# Altium schematic symbol library FPGA_Lattice.SchLib: 24 symbols (part 2 of 3)
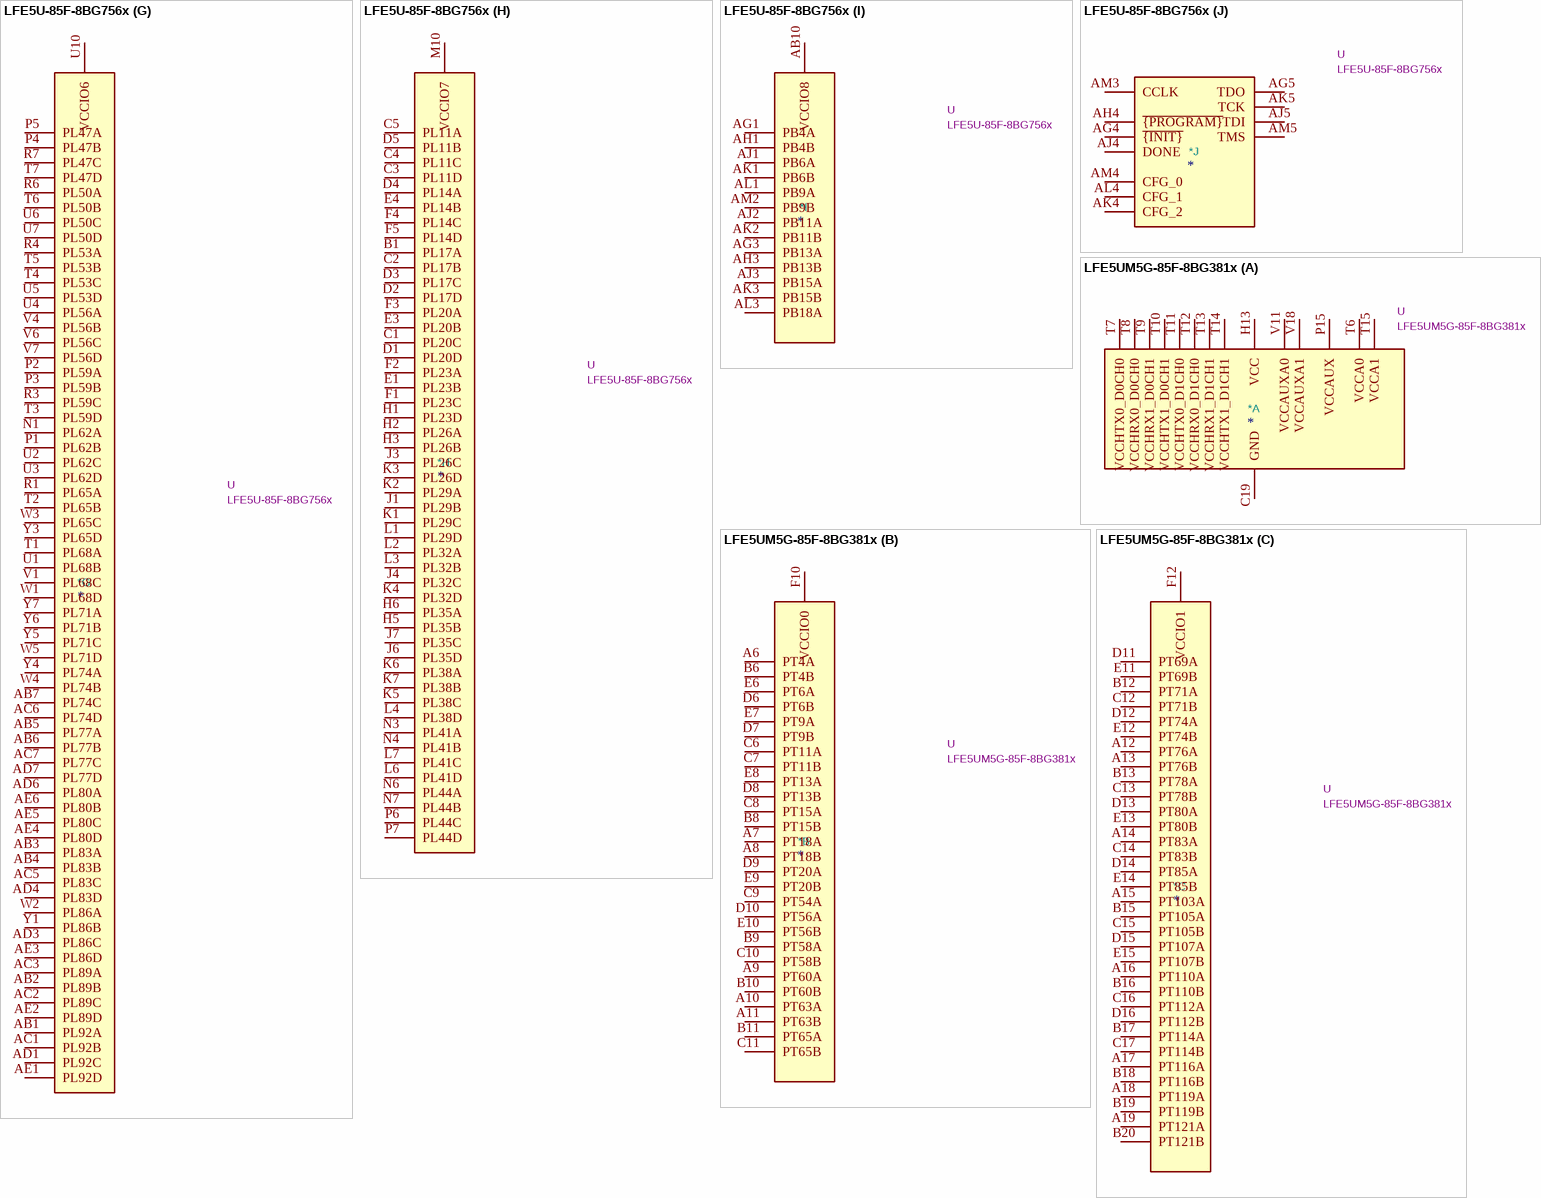
[diagram p25: symbols LFE5U-85F-8BG756x to LFE5UM5G-85F-8BG381x]

## LFE5U-85F-8BG756x
designator *  value LFE5U-85F-8BG756x  Reference: U
ki_keywords: FPGA programmable logic; ki_description: ECP5 FPGA, 84K LUTs, 1.2V, BGA-756; ki_fp_filters: Lattice*caBGA*27.0x27.0mm*Layout32x32*P0.8mm*; Footprint: Package_BGA:Lattice_caBGA-756_27.0x27.0mm_Layout32x32_P0.8mm; Datasheet: https://www.latticesemi.com/view_document?document_id=50461
part A pins: AA11 GND hidden, AA12 VCC hidden, AA13 VCC hidden, AA14 VCC, AA15 VCC hidden, AA16 VCC hidden, AA17 VCC hidden, AA18 VCC hidden, AA19 VCC hidden, AA20 VCC hidden, AA21 VCC hidden, AA22 GND hidden, AB11 GND hidden, AB12 GND hidden, AB13 GND hidden, AB14 GND hidden, AB15 GND hidden, AB16 GND hidden, AB17 GND hidden, AB18 GND hidden, AB19 GND hidden, AB20 GND hidden, AB21 GND hidden, AB22 GND hidden, AC11 VCCAUX hidden, AC12 GND hidden, AC13 GND hidden, AC14 GND hidden, AC15 GND hidden, AC16 GND hidden, AC17 GND hidden, AC18 GND hidden, AC19 GND hidden, AC20 GND hidden, AC21 GND hidden, AC22 VCCAUX hidden, AC29 NC hidden, AD2 GND hidden, AD5 GND hidden, AD28 GND hidden, AD31 GND hidden, AE7 NC hidden, AE26 NC hidden, AF11 GND hidden, AF12 GND hidden, AF14 GND hidden, AF15 GND hidden, AF16 GND hidden, AF17 GND hidden, AF19 GND hidden, AF20 GND hidden, AF22 GND hidden, AF23 GND hidden, AG9 GND hidden, AG11 GND hidden, AG12 GND hidden, AG14 GND hidden, AG15 GND hidden, AG16 GND hidden, AG17 GND hidden, AG19 GND hidden, AG20 GND hidden, AG22 GND hidden, AG23 GND hidden, AG24 NC hidden, AG31 NC hidden, AH2 GND hidden, AH5 GND hidden, AH7 GND hidden, AH8 GND hidden, AH9 GND hidden, AH11 GND hidden, AH12 GND hidden, AH14 GND hidden, AH15 GND hidden, AH16 GND hidden, AH17 GND hidden, AH19 GND hidden, AH20 GND hidden, AH22 GND hidden, AH23 GND hidden, AH24 GND hidden, AH25 GND hidden, AH26 GND hidden, AH29 GND hidden, AH31 GND hidden, AJ7 GND hidden, AJ8 GND hidden, AJ9 GND hidden, AJ10 GND hidden, AJ11 GND hidden, AJ12 GND hidden, AJ13 GND hidden, AJ14 GND hidden, AJ15 GND hidden, AJ16 GND hidden, AJ17 GND hidden, AJ18 GND hidden, AJ19 GND hidden, AJ20 GND hidden, AJ21 GND hidden, AJ22 GND hidden, AJ23 GND hidden, AJ24 GND hidden, AJ25 GND hidden, AJ26 GND hidden, AK7 GND hidden, AK8 GND hidden, AK9 RESERVED hidden, AK10 RESERVED hidden, AK11 GND hidden, AK12 RESERVED hidden, AK13 RESERVED hidden, AK14 GND hidden, AK17 GND hidden, AK18 RESERVED hidden, AK19 RESERVED hidden, AK20 GND hidden, AK21 RESERVED hidden, AK22 RESERVED hidden, AK23 GND hidden, AK26 GND hidden, AL2 GND hidden, AL5 GND hidden, AL7 GND hidden, AL8 GND hidden, AL9 GND hidden, AL11 GND hidden, AL12 GND hidden, AL14 GND hidden, AL15 GND hidden, AL17 GND hidden, AL18 GND hidden, AL20 GND hidden, AL21 GND hidden, AL23 GND hidden, AL24 GND hidden, AL26 GND hidden, AL29 GND hidden, AL31 GND hidden, AM7 GND hidden, AM8 GND hidden, AM9 GND hidden, AM11 GND hidden, AM12 GND hidden, AM14 GND hidden, AM15 GND hidden, AM17 GND hidden, AM18 GND hidden, AM20 GND hidden, AM21 GND hidden, AM23 GND hidden, AM24 GND hidden, AM26 GND hidden, B2 GND hidden, B5 GND hidden, B9 GND hidden, B13 GND hidden, B15 GND hidden, B18 GND hidden, B20 GND hidden, B24 GND hidden, B28 GND hidden, B31 GND, E2 GND hidden, E5 GND hidden, E7 NC hidden, E9 GND hidden, E13 GND hidden, E15 GND hidden, E18 GND hidden, E20 GND hidden, E24 GND hidden, E26 NC hidden, E28 GND hidden, E31 GND hidden, G9 NC hidden, G10 NC hidden, G11 NC hidden, G14 NC hidden, G15 NC hidden, G16 NC hidden, G17 NC hidden, G18 NC hidden, G19 NC hidden, G22 NC hidden, G23 NC hidden, G24 NC hidden, H29 NC hidden, J2 GND hidden, J5 GND hidden, J28 GND hidden, J31 GND hidden, K10 GND hidden, K11 GND hidden, K13 VCCAUX hidden, K20 VCCAUX hidden, K22 GND hidden, K23 GND hidden, L10 GND hidden, L11 GND hidden, L12 GND hidden, L13 GND hidden, L14 GND hidden, L15 GND hidden, L16 GND hidden, L17 GND hidden, L18 GND hidden, L19 GND hidden, L20 GND hidden, L21 GND hidden, L22 GND hidden, L23 GND hidden, L28 NC hidden, M11 GND hidden, M12 VCC hidden, M13 VCC hidden, M14 VCC hidden, M15 VCC hidden, M16 VCC hidden, M17 VCC hidden, M18 VCC hidden, M19 VCC hidden, M20 VCC hidden, M21 VCC hidden, M22 GND hidden, N2 GND hidden, N5 GND hidden, N10 VCCAUX hidden, N11 GND hidden, N12 VCC hidden, N13 GND hidden, N14 GND hidden, N15 GND hidden, N16 GND hidden, N17 GND hidden, N18 GND hidden, N19 GND hidden, N20 GND hidden, N21 VCC hidden, N22 GND hidden, N23 VCCAUX, N28 GND hidden, N31 GND hidden, P11 GND hidden, P12 VCC hidden, P13 GND hidden, P14 GND hidden, P15 GND hidden, P16 GND hidden, P17 GND hidden, P18 GND hidden, P19 GND hidden, P20 GND hidden, P21 VCC hidden, P22 GND hidden, R2 GND hidden, R5 GND hidden, R11 GND hidden, R12 VCC hidden, R13 GND hidden, R14 GND hidden, R15 GND hidden, R16 GND hidden, R17 GND hidden, R18 GND hidden, R19 GND hidden, R20 GND hidden, R21 VCC hidden, R22 GND hidden, R28 GND hidden, R31 GND hidden, T11 GND hidden, T12 VCC hidden, T13 GND hidden, T14 GND hidden, T15 GND hidden, T16 GND hidden, T17 GND hidden, T18 GND hidden, T19 GND hidden, T20 GND hidden, T21 VCC hidden, T22 GND hidden, U11 GND hidden, U12 VCC hidden, U13 GND hidden, U14 GND hidden, U15 GND hidden, U16 GND hidden, U17 GND hidden, U18 GND hidden, U19 GND hidden, U20 GND hidden, U21 VCC hidden, U22 GND hidden, V2 GND hidden, V5 GND hidden, V11 GND hidden, V12 VCC hidden, V13 GND hidden, V14 GND hidden, V15 GND hidden, V16 GND hidden, V17 GND hidden, V18 GND hidden, V19 GND hidden, V20 GND hidden, V21 VCC hidden, V22 GND hidden, V28 GND hidden, V30 NC hidden, V31 GND hidden, W11 GND hidden, W12 VCC hidden, W13 GND hidden, W14 GND hidden, W15 GND hidden, W16 GND hidden, W17 GND hidden, W18 GND hidden, W19 GND hidden, W20 GND hidden, W21 VCC hidden, W22 GND hidden, W27 NC hidden, Y2 GND hidden, Y10 VCCAUX hidden, Y11 GND hidden, Y12 VCC hidden, Y13 GND hidden, Y14 GND hidden, Y15 GND hidden, Y16 GND hidden, Y17 GND hidden, Y18 GND hidden, Y19 GND hidden, Y20 GND hidden, Y21 VCC hidden, Y22 GND hidden, Y23 VCCAUX hidden, Y31 GND hidden
part B pins: A2 PT6A, A3 PT6B, A4 PT9A, A5 PT9B, A7 PT13B, A8 PT20B, A9 PT24B, A10 PT31B, A11 PT38B, A13 PT42B, A14 PT49B, A15 PT54B, A16 PT60B, A17 PT63A, B3 PT4A, B4 PT4B, B7 PT13A, B8 PT20A, B10 PT31A, B11 PT38A, B14 PT49A, B16 PT60A, B17 PT63B, C7 PT11B, C8 PT18B, C9 PT24A, C10 PT29B, C11 PT36B, C13 PT42A, C14 PT47B, C15 PT54A, C16 PT58B, C17 PT65A, D7 PT11A, D8 PT18A, D9 PT22B, D10 PT29A, D11 PT36A, D13 PT40B, D14 PT47A, D15 PT51B, D16 PT58A, D17 PT65B, E8 PT15B, E10 PT27B, E11 PT33B, E14 PT45B, E16 PT56B, F8 PT15A, F9 PT22A, F10 PT27A, F11 PT33A, F13 PT40A, F14 PT45A, F15 PT51A, F16 PT56A, K12 VCCIO0 hidden, K14 VCCIO0 hidden, K15 VCCIO0 hidden, K16 VCCIO0, W6 NC hidden
part C pins: A18 PT71A, A19 PT76A, A20 PT83A, A22 PT87A, A23 PT94A, A24 PT101A, A25 PT105A, A26 PT112A, A28 PT116A, A29 PT116B, A30 PT119A, A31 PT119B, B19 PT76B, B22 PT87B, B23 PT94B, B25 PT105B, B26 PT112B, B29 PT121A, B30 PT121B, C18 PT71B, C19 PT78A, C20 PT83B, C22 PT89A, C23 PT96A, C24 PT101B, C25 PT107A, C26 PT114A, D18 PT74A, D19 PT78B, D20 PT85A, D22 PT89B, D23 PT96B, D24 PT103A, D25 PT107B, D26 PT114B, E17 PT69A, E19 PT80A, E22 PT92A, E23 PT98A, E25 PT110A, F17 PT69B, F18 PT74B, F19 PT80B, F20 PT85B, F22 PT92B, F23 PT98B, F24 PT103B, F25 PT110B, K17 VCCIO1 hidden, K18 VCCIO1 hidden, K19 VCCIO1 hidden, K21 VCCIO1, L5 NC hidden
part D pins: B32 PR17A, C28 PR11A, C29 PR11C, C30 PR11D, C31 PR17B, C32 PR20C, D28 PR11B, D29 PR14A, D30 PR17C, D31 PR17D, D32 PR20D, E29 PR14B, E30 PR20B, E32 PR23B, F28 PR14D, F29 PR14C, F30 PR20A, F31 PR23A, F32 PR23C, H4 NC hidden, H27 PR35A, H28 PR35B, H30 PR26B, H31 PR26A, H32 PR23D, J26 PR35C, J27 PR35D, J29 PR32C, J30 PR26C, J32 PR29B, K26 PR38B, K27 PR38A, K28 PR38C, K29 PR32D, K30 PR26D, K31 PR29A, K32 PR29C, L26 PR41C, L27 PR41D, L29 PR38D, L30 PR32B, L31 PR32A, L32 PR29D, M23 VCCIO2, N26 PR44B, N27 PR44A, N29 PR41B, N30 PR41A, P23 VCCIO2 hidden, P26 PR44D, P27 PR44C, R23 VCCIO2 hidden, T23 VCCIO2 hidden
part E pins: AA23 VCCIO3 hidden, AB26 PR74C, AB27 PR77B, AB28 PR77A, AB29 PR83B, AB30 PR83A, AB31 PR89B, AB32 PR92A, AC4 NC hidden, AC26 PR77C, AC27 PR74D, AC28 PR83C, AC30 PR89A, AC31 PR89C, AC32 PR92B, AD26 PR77D, AD27 PR80A, AD29 PR83D, AD30 PR86C, AD32 PR92C, AE27 PR80B, AE28 PR80C, AE29 PR80D, AE30 PR86D, AE31 PR89D, AE32 PR92D, N32 PR62A, P28 PR47A, P29 PR47B, P30 PR59B, P31 PR59A, P32 PR62B, R26 PR47C, R27 PR50A, R29 PR53A, R30 PR59C, R32 PR65A, T26 PR47D, T27 PR50B, T28 PR53B, T29 PR53C, T30 PR59D, T31 PR65B, T32 PR68A, U23 VCCIO3, U26 PR50D, U27 PR50C, U28 PR53D, U29 PR56A, U30 PR62D, U31 PR62C, U32 PR68B, V23 VCCIO3 hidden, V26 PR56D, V27 PR56C, V29 PR56B, V32 PR68C, W23 VCCIO3 hidden, W28 PR71D, W29 PR74B, W30 PR65C, W31 PR86A, W32 PR68D, Y26 PR71A, Y27 PR71B, Y28 PR71C, Y29 PR74A, Y30 PR65D, Y32 PR86B
part F pins: AB23 VCCIO4, AC23 VCCIO4 hidden, AG28 PB110A, AG29 PB110B, AG30 PB114B, AG32 PB119B, AH28 PB112B, AH30 PB114A, AH32 PB119A, AJ28 PB112A, AJ29 PB121A, AJ30 PB121B, AJ31 PB105B, AJ32 PB101B, AK28 PB98B, AK29 PB116A, AK30 PB116B, AK31 PB105A, AK32 PB101A, AL28 PB98A, AL30 PB103B, AL32 PB107B, AM28 PB96A, AM29 PB96B, AM30 PB103A, AM31 PB107A, V3 NC hidden
part G pins: AA10 VCCIO6 hidden, AB1 PL92A, AB2 PL89B, AB3 PL83A, AB4 PL83B, AB5 PL77A, AB6 PL77B, AB7 PL74C, AC1 PL92B, AC2 PL89C, AC3 PL89A, AC5 PL83C, AC6 PL74D, AC7 PL77C, AD1 PL92C, AD3 PL86C, AD4 PL83D, AD6 PL80A, AD7 PL77D, AE1 PL92D, AE2 PL89D, AE3 PL86D, AE4 PL80D, AE5 PL80C, AE6 PL80B, AG2 NC hidden, N1 PL62A, P1 PL62B, P2 PL59A, P3 PL59B, P4 PL47B, P5 PL47A, R1 PL65A, R3 PL59C, R4 PL53A, R6 PL50A, R7 PL47C, T1 PL68A, T2 PL65B, T3 PL59D, T4 PL53C, T5 PL53B, T6 PL50B, T7 PL47D, U1 PL68B, U2 PL62C, U3 PL62D, U4 PL56A, U5 PL53D, U6 PL50C, U7 PL50D, U10 VCCIO6, V1 PL68C, V4 PL56B, V6 PL56C, V7 PL56D, V10 VCCIO6 hidden, W1 PL68D, W2 PL86A, W3 PL65C, W4 PL74B, W5 PL71D, W10 VCCIO6 hidden, Y1 PL86B, Y3 PL65D, Y4 PL74A, Y5 PL71C, Y6 PL71B, Y7 PL71A
part H pins: B1 PL17A, C1 PL20C, C2 PL17B, C3 PL11D, C4 PL11C, C5 PL11A, D1 PL20D, D2 PL17D, D3 PL17C, D4 PL14A, D5 PL11B, E1 PL23B, E3 PL20B, E4 PL14B, F1 PL23C, F2 PL23A, F3 PL20A, F4 PL14C, F5 PL14D, H1 PL23D, H2 PL26A, H3 PL26B, H5 PL35B, H6 PL35A, J1 PL29B, J3 PL26C, J4 PL32C, J6 PL35D, J7 PL35C, K1 PL29C, K2 PL29A, K3 PL26D, K4 PL32D, K5 PL38C, K6 PL38A, K7 PL38B, L1 PL29D, L2 PL32A, L3 PL32B, L4 PL38D, L6 PL41D, L7 PL41C, M10 VCCIO7, N3 PL41A, N4 PL41B, N6 PL44A, N7 PL44B, P6 PL44C, P7 PL44D, P10 VCCIO7 hidden, R10 VCCIO7 hidden, T10 VCCIO7 hidden
part I pins: AB10 VCCIO8, AC10 VCCIO8 hidden, AG1 PB4A, AG3 PB13A, AH1 PB4B, AH3 PB13B, AJ1 PB6A, AJ2 PB11A, AJ3 PB15A, AK1 PB6B, AK2 PB11B, AK3 PB15B, AL1 PB9A, AL3 PB18A, AM2 PB9B
part J pins: AG4 ~{{INIT}}, AG5 TDO, AH4 ~{{PROGRAM}}, AJ4 DONE, AJ5 TDI, AK4 CFG_2, AK5 TCK, AK15 RESERVED hidden, AK16 RESERVED hidden, AK24 RESERVED hidden, AK25 RESERVED hidden, AL4 CFG_1, AM3 CCLK, AM4 CFG_0, AM5 TMS

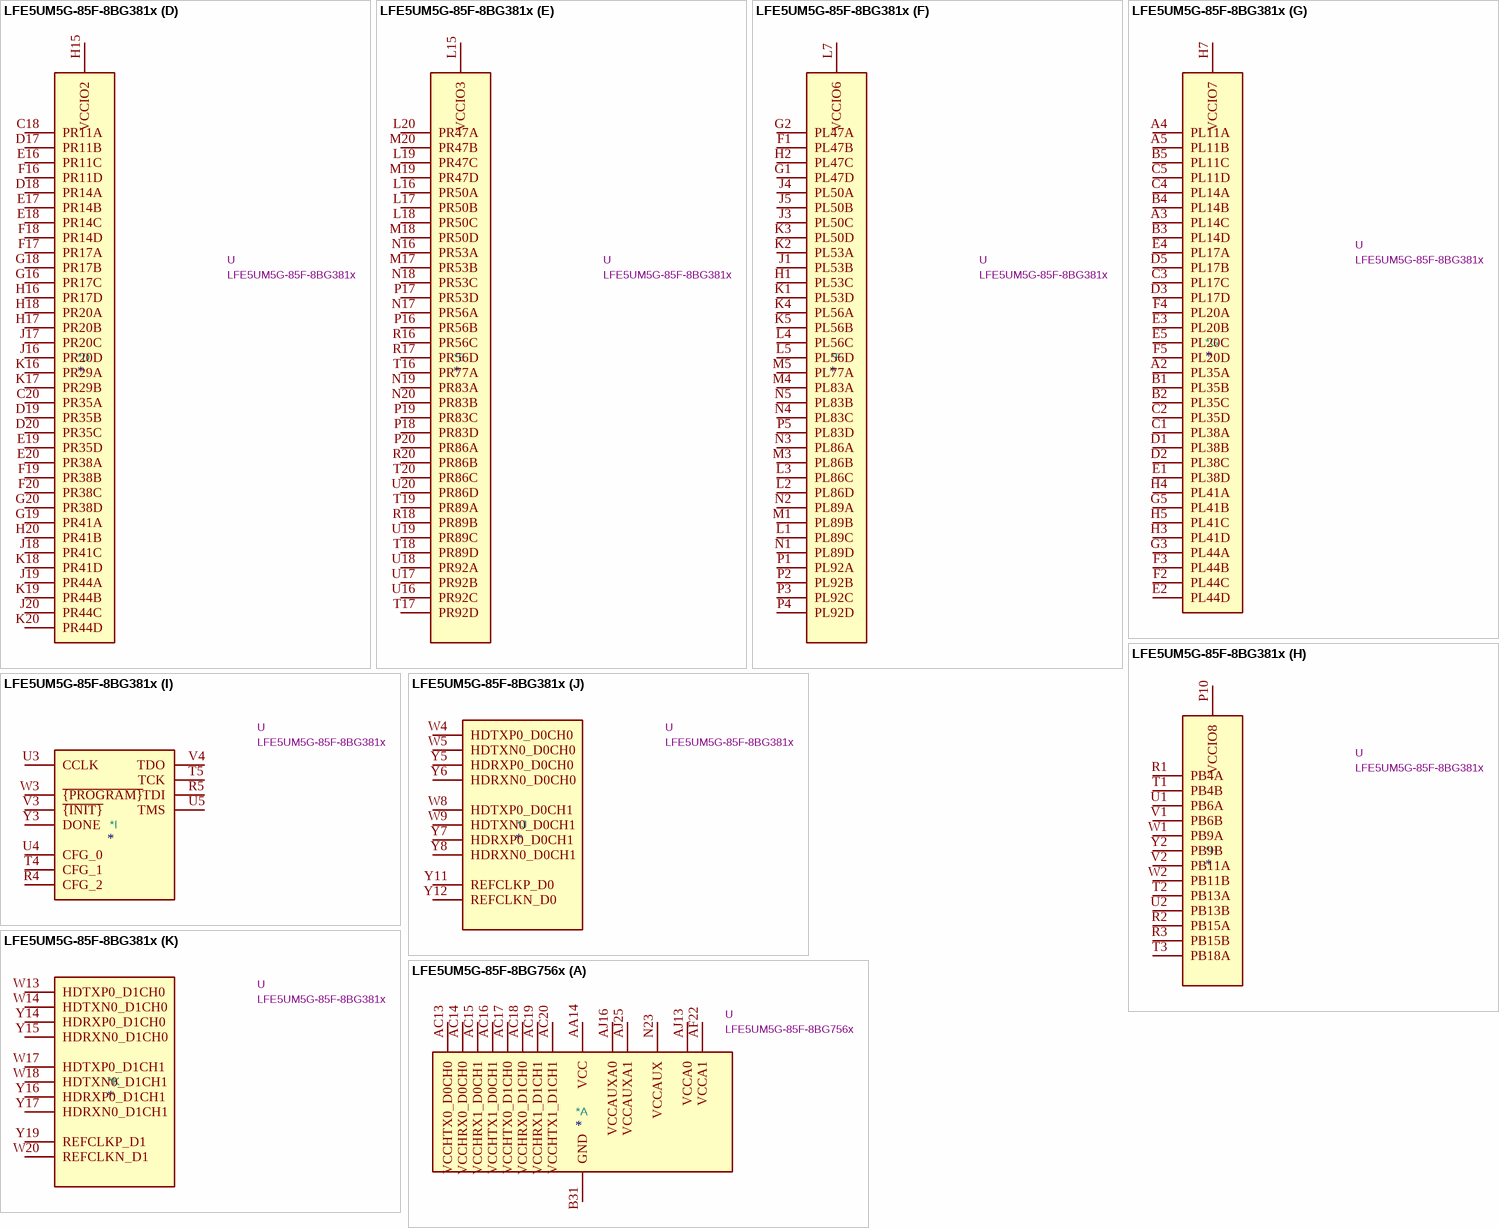
[diagram p11: symbols LFE5UM5G-85F-8BG381x to LFE5UM5G-85F-8BG756x]

## LFE5UM5G-85F-8BG381x
designator *  value LFE5UM5G-85F-8BG381x  Reference: U
ki_keywords: FPGA programmable logic; ki_description: ECP5-5G FPGA, 84K LUTs, 1.2V, 5Gbps SERDES, BGA-381; ki_fp_filters: Lattice*caBGA*17.0x17.0mm*Layout20x20*P0.8mm*; Footprint: Package_BGA:Lattice_caBGA-381_17.0x17.0mm_Layout20x20_P0.8mm_Ball0.4mm_Pad0.4mm_NSMD; Datasheet: https://www.latticesemi.com/view_document?document_id=50461
part A pins: B7 GND hidden, B14 GND hidden, C19 GND, D4 GND hidden, F6 VCCAUX hidden, F7 GND hidden, F8 GND hidden, F13 GND hidden, F14 GND hidden, F15 VCCAUX hidden, G4 GND hidden, G6 GND hidden, G7 GND hidden, G8 GND hidden, G9 GND hidden, G10 GND hidden, G11 GND hidden, G12 GND hidden, G13 GND hidden, G14 GND hidden, G15 GND hidden, G17 GND hidden, H8 VCC hidden, H9 VCC hidden, H10 VCC hidden, H11 VCC hidden, H12 VCC hidden, H13 VCC, H19 GND hidden, J2 GND hidden, J7 GND hidden, J8 VCC hidden, J9 GND hidden, J10 GND hidden, J11 GND hidden, J12 GND hidden, J13 VCC hidden, J14 GND hidden, K6 GND hidden, K7 GND hidden, K8 VCC hidden, K9 GND hidden, K10 GND hidden, K11 GND hidden, K12 GND hidden, K13 VCC hidden, K14 GND hidden, K15 GND hidden, L8 VCC hidden, L9 GND hidden, L10 GND hidden, L11 GND hidden, L12 GND hidden, L13 VCC hidden, M2 GND hidden, M7 GND hidden, M8 VCC hidden, M9 GND hidden, M10 GND hidden, M11 GND hidden, M12 GND hidden, M13 VCC hidden, M14 GND hidden, M16 GND hidden, N6 GND hidden, N7 GND hidden, N8 VCC hidden, N9 VCC hidden, N10 VCC hidden, N11 VCC hidden, N12 VCC hidden, N13 VCC hidden, N14 GND hidden, N15 GND hidden, P6 VCCAUX hidden, P7 GND hidden, P8 GND hidden, P11 GND hidden, P12 GND hidden, P13 GND hidden, P14 GND hidden, P15 VCCAUX, R19 GND hidden, T6 VCCA0, T7 VCCHTX0_D0CH0, T8 VCCHRX0_D0CH0, T9 VCCHRX1_D0CH1, T10 VCCHTX1_D0CH1, T11 VCCHTX0_D1CH0, T12 VCCHRX0_D1CH0, T13 VCCHRX1_D1CH1, T14 VCCHTX1_D1CH1, T15 VCCA1, U6 VCCA0 hidden, U7 GND hidden, U8 GND hidden, U9 GND hidden, U10 GND hidden, U11 GND hidden, U12 GND hidden, U13 GND hidden, U14 GND hidden, U15 VCCA1 hidden, V5 GND hidden, V6 GND hidden, V7 GND hidden, V8 GND hidden, V9 GND hidden, V10 VCCAUXA0 hidden, V11 VCCAUXA0, V12 GND hidden, V13 GND hidden, V14 GND hidden, V15 GND hidden, V16 GND hidden, V17 VCCAUXA1 hidden, V18 VCCAUXA1, V19 GND hidden, V20 GND hidden, W6 GND hidden, W7 GND hidden, W12 GND hidden, W15 GND hidden, W16 GND hidden, W19 GND hidden
part B pins: A6 PT4A, A7 PT18A, A8 PT18B, A9 PT60A, A10 PT63A, A11 PT63B, B6 PT4B, B8 PT15B, B9 PT58A, B10 PT60B, B11 PT65A, C6 PT11A, C7 PT11B, C8 PT15A, C9 PT54A, C10 PT58B, C11 PT65B, D6 PT6B, D7 PT9B, D8 PT13B, D9 PT20A, D10 PT56A, E6 PT6A, E7 PT9A, E8 PT13A, E9 PT20B, E10 PT56B, F9 VCCIO0 hidden, F10 VCCIO0
part C pins: A12 PT76A, A13 PT76B, A14 PT83A, A15 PT103A, A16 PT110A, A17 PT116A, A18 PT119A, A19 PT121A, B12 PT71A, B13 PT78A, B15 PT105A, B16 PT110B, B17 PT114A, B18 PT116B, B19 PT119B, B20 PT121B, C12 PT71B, C13 PT78B, C14 PT83B, C15 PT105B, C16 PT112A, C17 PT114B, D11 PT69A, D12 PT74A, D13 PT80A, D14 PT85A, D15 PT107A, D16 PT112B, E11 PT69B, E12 PT74B, E13 PT80B, E14 PT85B, E15 PT107B, F11 VCCIO1 hidden, F12 VCCIO1
part D pins: C18 PR11A, C20 PR35A, D17 PR11B, D18 PR14A, D19 PR35B, D20 PR35C, E16 PR11C, E17 PR14B, E18 PR14C, E19 PR35D, E20 PR38A, F16 PR11D, F17 PR17A, F18 PR14D, F19 PR38B, F20 PR38C, G16 PR17C, G18 PR17B, G19 PR41A, G20 PR38D, H14 VCCIO2 hidden, H15 VCCIO2, H16 PR17D, H17 PR20B, H18 PR20A, H20 PR41B, J15 VCCIO2 hidden, J16 PR20D, J17 PR20C, J18 PR41C, J19 PR44A, J20 PR44C, K16 PR29A, K17 PR29B, K18 PR41D, K19 PR44B, K20 PR44D
part E pins: L14 VCCIO3 hidden, L15 VCCIO3, L16 PR50A, L17 PR50B, L18 PR50C, L19 PR47C, L20 PR47A, M15 VCCIO3 hidden, M17 PR53B, M18 PR50D, M19 PR47D, M20 PR47B, N16 PR53A, N17 PR56A, N18 PR53C, N19 PR83A, N20 PR83B, P16 PR56B, P17 PR53D, P18 PR83D, P19 PR83C, P20 PR86A, R16 PR56C, R17 PR56D, R18 PR89B, R20 PR86B, T16 PR77A, T17 PR92D, T18 PR89D, T19 PR89A, T20 PR86C, U16 PR92C, U17 PR92B, U18 PR92A, U19 PR89C, U20 PR86D
part F pins: F1 PL47B, G1 PL47D, G2 PL47A, H1 PL53C, H2 PL47C, J1 PL53B, J3 PL50C, J4 PL50A, J5 PL50B, K1 PL53D, K2 PL53A, K3 PL50D, K4 PL56A, K5 PL56B, L1 PL89C, L2 PL86D, L3 PL86C, L4 PL56C, L5 PL56D, L6 VCCIO6 hidden, L7 VCCIO6, M1 PL89B, M3 PL86B, M4 PL83A, M5 PL77A, M6 VCCIO6 hidden, N1 PL89D, N2 PL89A, N3 PL86A, N4 PL83C, N5 PL83B, P1 PL92A, P2 PL92B, P3 PL92C, P4 PL92D, P5 PL83D
part G pins: A2 PL35A, A3 PL14C, A4 PL11A, A5 PL11B, B1 PL35B, B2 PL35C, B3 PL14D, B4 PL14B, B5 PL11C, C1 PL38A, C2 PL35D, C3 PL17C, C4 PL14A, C5 PL11D, D1 PL38B, D2 PL38C, D3 PL17D, D5 PL17B, E1 PL38D, E2 PL44D, E3 PL20B, E4 PL17A, E5 PL20C, F2 PL44C, F3 PL44B, F4 PL20A, F5 PL20D, G3 PL44A, G5 PL41B, H3 PL41D, H4 PL41A, H5 PL41C, H6 VCCIO7 hidden, H7 VCCIO7, J6 VCCIO7 hidden
part H pins: P9 VCCIO8 hidden, P10 VCCIO8, R1 PB4A, R2 PB15A, R3 PB15B, T1 PB4B, T2 PB13A, T3 PB18A, U1 PB6A, U2 PB13B, V1 PB6B, V2 PB11A, W1 PB9A, W2 PB11B, Y2 PB9B
part I pins: R4 CFG_2, R5 TDI, T4 CFG_1, T5 TCK, U3 CCLK, U4 CFG_0, U5 TMS, V3 ~{{INIT}}, V4 TDO, W3 ~{{PROGRAM}}, W10 RESERVED hidden, W11 RESERVED hidden, Y3 DONE
part J pins: W4 HDTXP0_D0CH0, W5 HDTXN0_D0CH0, W8 HDTXP0_D0CH1, W9 HDTXN0_D0CH1, Y5 HDRXP0_D0CH0, Y6 HDRXN0_D0CH0, Y7 HDRXP0_D0CH1, Y8 HDRXN0_D0CH1, Y11 REFCLKP_D0, Y12 REFCLKN_D0
part K pins: W13 HDTXP0_D1CH0, W14 HDTXN0_D1CH0, W17 HDTXP0_D1CH1, W18 HDTXN0_D1CH1, W20 REFCLKN_D1, Y14 HDRXP0_D1CH0, Y15 HDRXN0_D1CH0, Y16 HDRXP0_D1CH1, Y17 HDRXN0_D1CH1, Y19 REFCLKP_D1

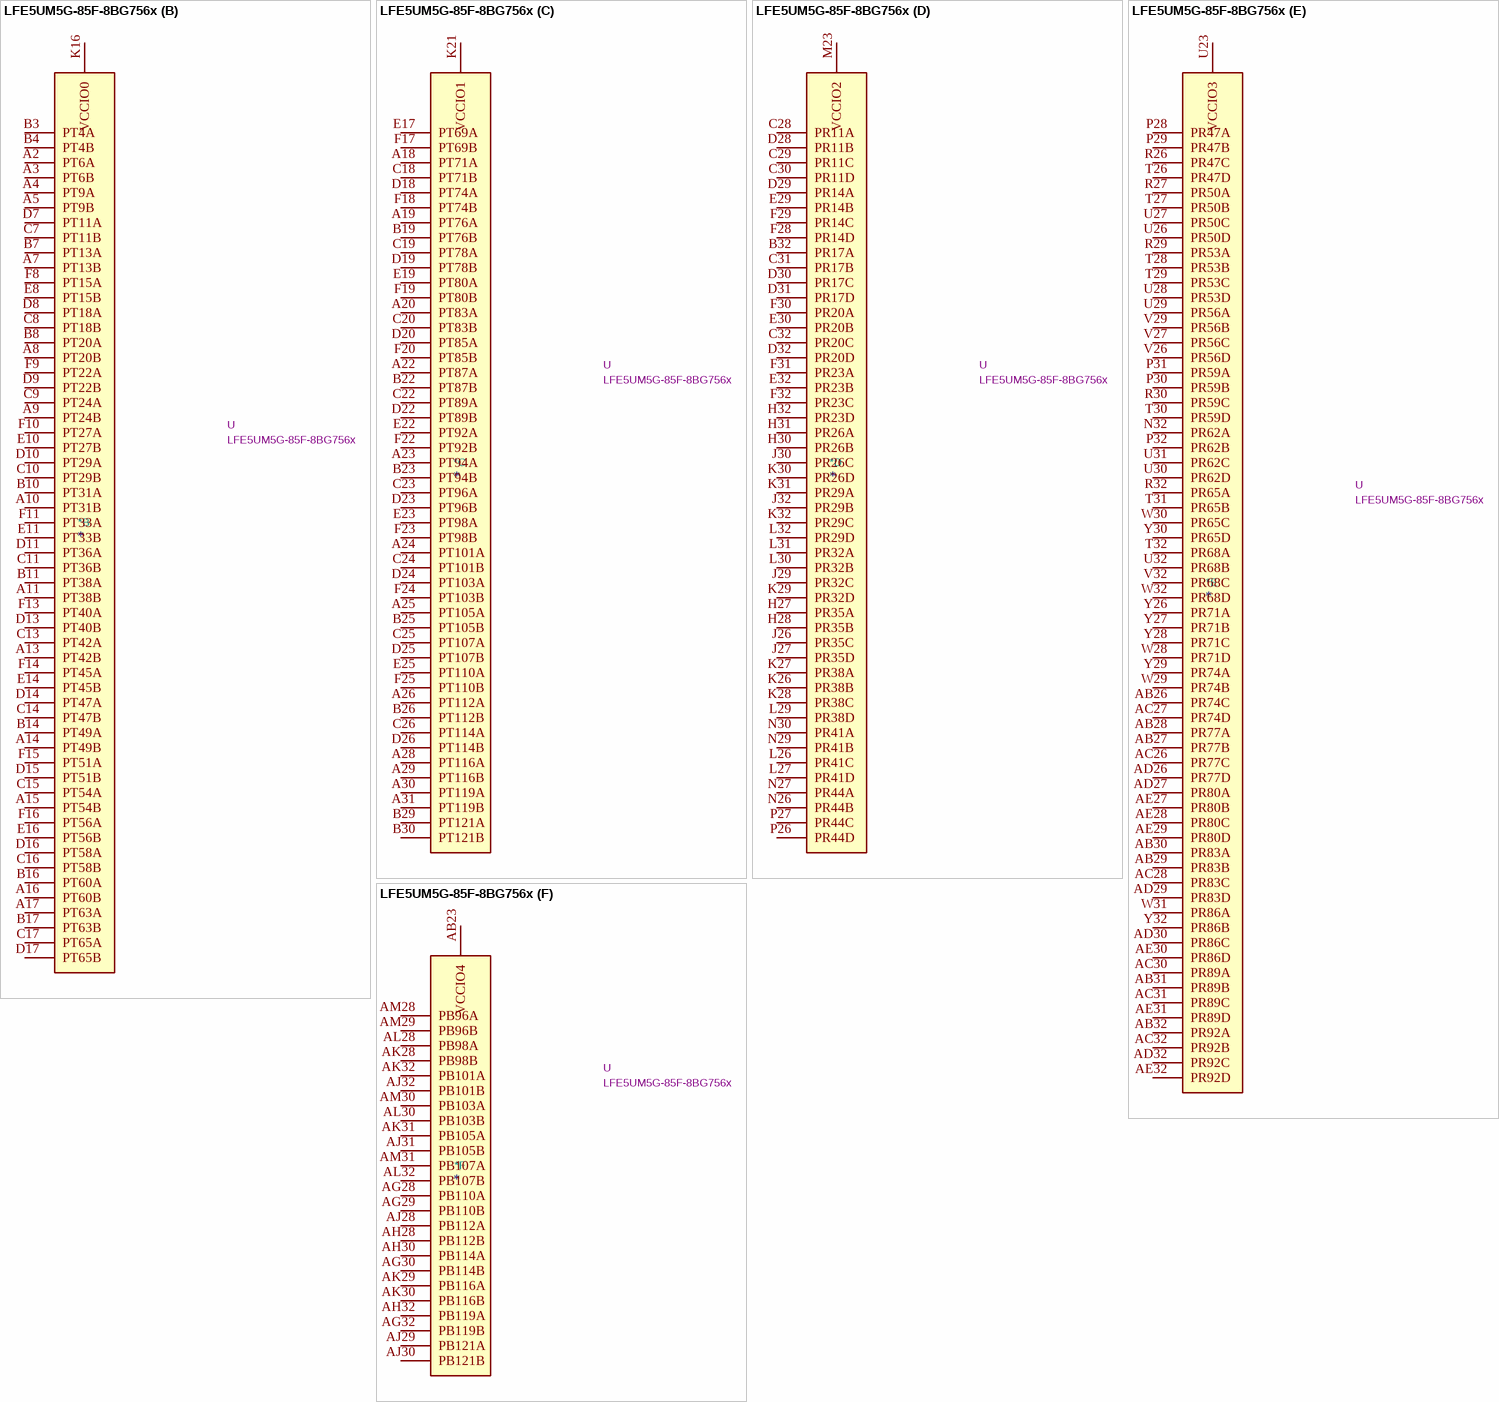
[diagram p12: symbol LFE5UM5G-85F-8BG756x]

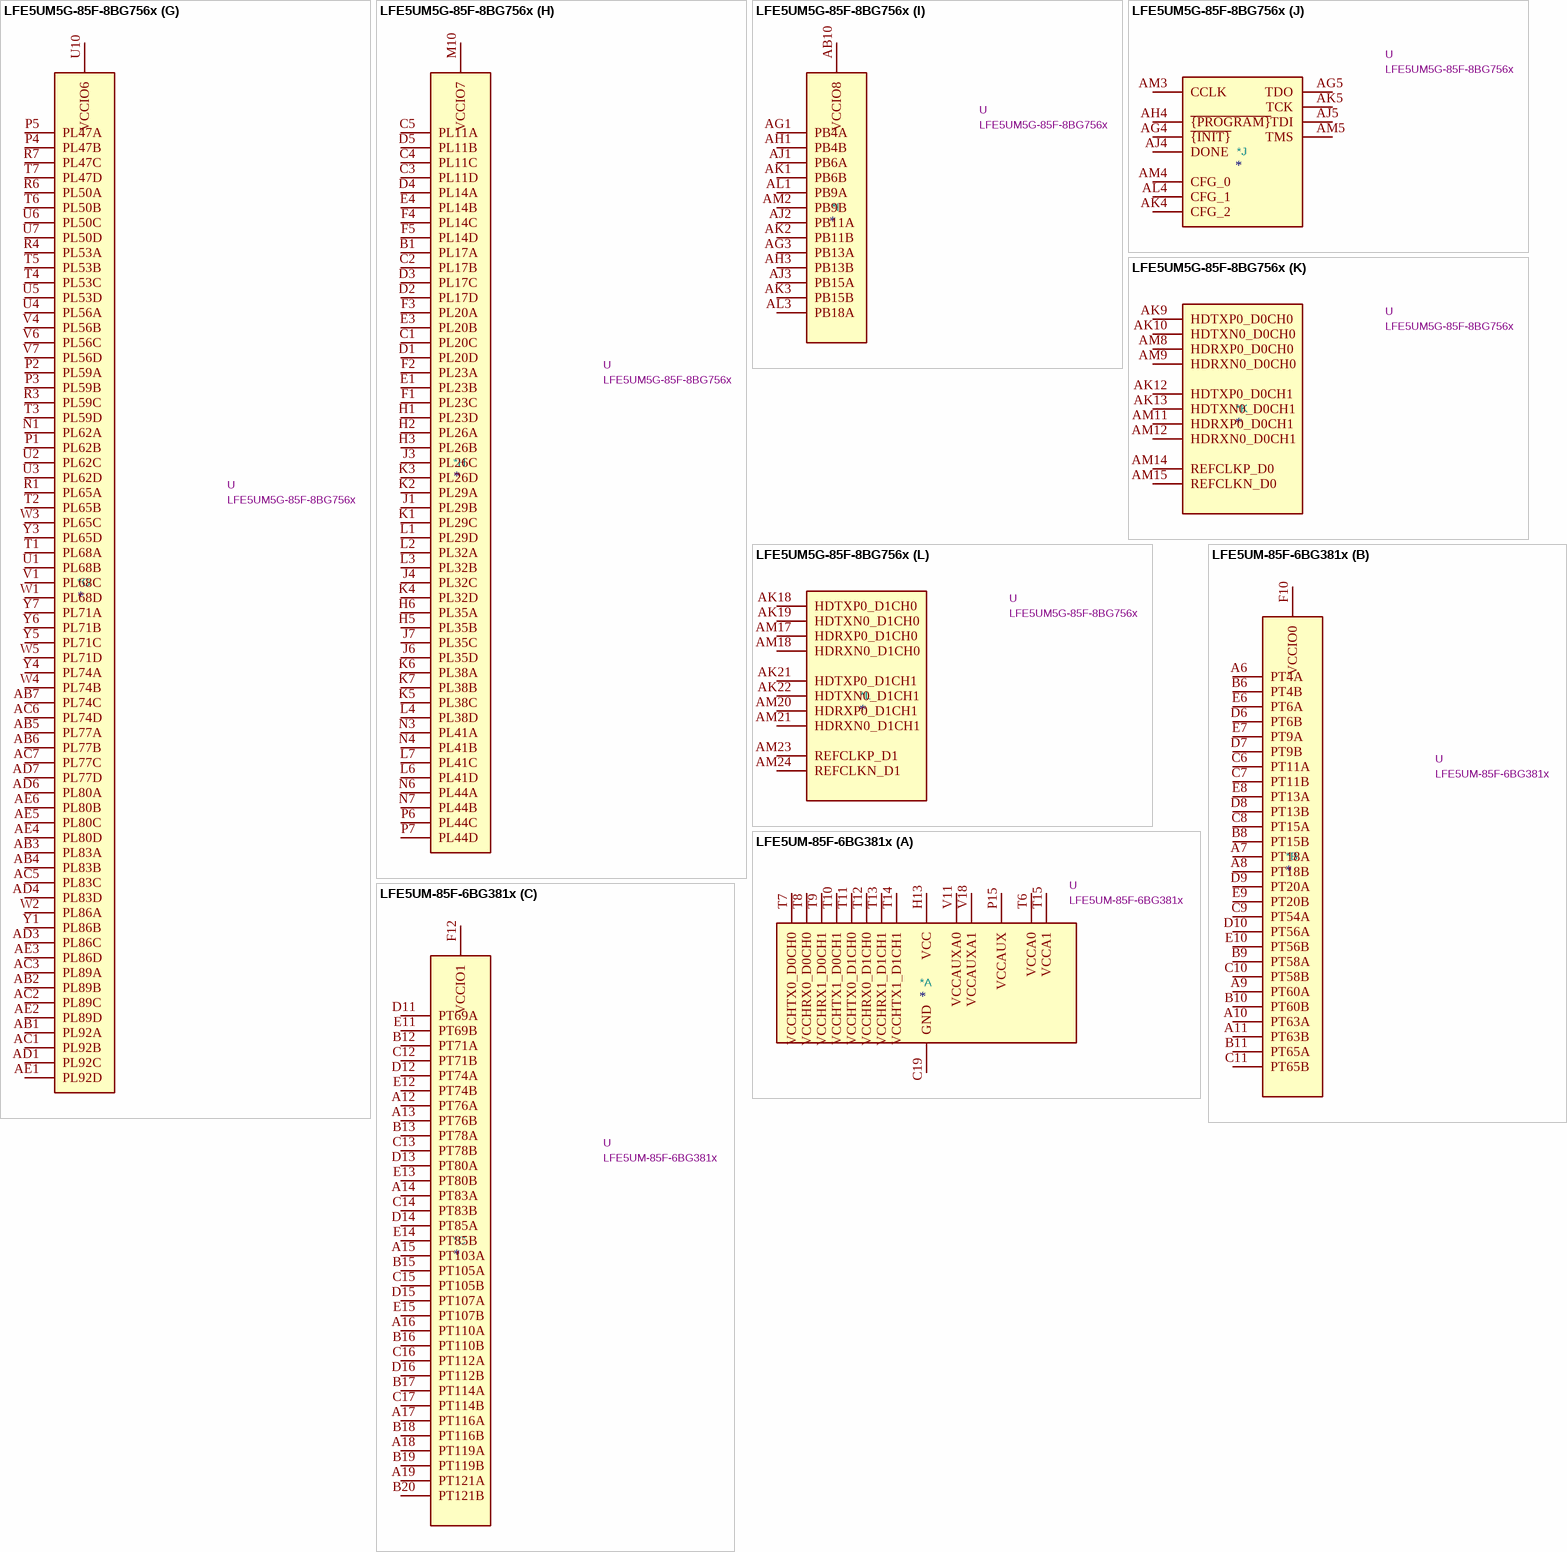
[diagram p13: symbols LFE5UM5G-85F-8BG756x to LFE5UM-85F-6BG381x]

## LFE5UM5G-85F-8BG756x
designator *  value LFE5UM5G-85F-8BG756x  Reference: U
ki_keywords: FPGA programmable logic; ki_description: ECP5-5G FPGA, 84K LUTs, 1.2V, 5Gbps SERDES, BGA-756; ki_fp_filters: Lattice*caBGA*27.0x27.0mm*Layout32x32*P0.8mm*; Footprint: Package_BGA:Lattice_caBGA-756_27.0x27.0mm_Layout32x32_P0.8mm; Datasheet: https://www.latticesemi.com/view_document?document_id=50461
part A pins: AA11 GND hidden, AA12 VCC hidden, AA13 VCC hidden, AA14 VCC, AA15 VCC hidden, AA16 VCC hidden, AA17 VCC hidden, AA18 VCC hidden, AA19 VCC hidden, AA20 VCC hidden, AA21 VCC hidden, AA22 GND hidden, AB11 GND hidden, AB12 GND hidden, AB13 GND hidden, AB14 GND hidden, AB15 GND hidden, AB16 GND hidden, AB17 GND hidden, AB18 GND hidden, AB19 GND hidden, AB20 GND hidden, AB21 GND hidden, AB22 GND hidden, AC11 VCCAUX hidden, AC12 GND hidden, AC13 VCCHTX0_D0CH0, AC14 VCCHRX0_D0CH0, AC15 VCCHRX1_D0CH1, AC16 VCCHTX1_D0CH1, AC17 VCCHTX0_D1CH0, AC18 VCCHRX0_D1CH0, AC19 VCCHRX1_D1CH1, AC20 VCCHTX1_D1CH1, AC21 GND hidden, AC22 VCCAUX hidden, AC29 NC hidden, AD2 GND hidden, AD5 GND hidden, AD28 GND hidden, AD31 GND hidden, AE7 NC hidden, AE26 NC hidden, AF11 GND hidden, AF12 GND hidden, AF14 GND hidden, AF15 GND hidden, AF16 GND hidden, AF17 GND hidden, AF19 GND hidden, AF20 GND hidden, AF22 VCCA1, AF23 GND hidden, AG9 VCCA0 hidden, AG11 GND hidden, AG12 VCCA0 hidden, AG14 GND hidden, AG15 GND hidden, AG16 GND hidden, AG17 GND hidden, AG19 VCCA1 hidden, AG20 GND hidden, AG22 VCCA1 hidden, AG23 GND hidden, AG24 NC hidden, AG31 NC hidden, AH2 GND hidden, AH5 GND hidden, AH7 GND hidden, AH8 GND hidden, AH9 VCCA0 hidden, AH11 GND hidden, AH12 VCCA0 hidden, AH14 GND hidden, AH15 GND hidden, AH16 GND hidden, AH17 GND hidden, AH19 VCCA1 hidden, AH20 GND hidden, AH22 VCCA1 hidden, AH23 GND hidden, AH24 GND hidden, AH25 GND hidden, AH26 GND hidden, AH29 GND hidden, AH31 GND hidden, AJ7 GND hidden, AJ8 GND hidden, AJ9 VCCA0 hidden, AJ10 VCCA0 hidden, AJ11 GND hidden, AJ12 VCCA0 hidden, AJ13 VCCA0, AJ14 GND hidden, AJ15 VCCAUXA0 hidden, AJ16 VCCAUXA0, AJ17 GND hidden, AJ18 VCCA1 hidden, AJ19 VCCA1 hidden, AJ20 GND hidden, AJ21 VCCA1 hidden, AJ22 VCCA1 hidden, AJ23 GND hidden, AJ24 VCCAUXA1 hidden, AJ25 VCCAUXA1, AJ26 GND hidden, AK7 GND hidden, AK8 GND hidden, AK11 GND hidden, AK14 GND hidden, AK17 GND hidden, AK20 GND hidden, AK23 GND hidden, AK26 GND hidden, AL2 GND hidden, AL5 GND hidden, AL7 GND hidden, AL8 GND hidden, AL9 GND hidden, AL11 GND hidden, AL12 GND hidden, AL14 GND hidden, AL15 GND hidden, AL17 GND hidden, AL18 GND hidden, AL20 GND hidden, AL21 GND hidden, AL23 GND hidden, AL24 GND hidden, AL26 GND hidden, AL29 GND hidden, AL31 GND hidden, AM7 GND hidden, AM26 GND hidden, B2 GND hidden, B5 GND hidden, B9 GND hidden, B13 GND hidden, B15 GND hidden, B18 GND hidden, B20 GND hidden, B24 GND hidden, B28 GND hidden, B31 GND, E2 GND hidden, E5 GND hidden, E7 NC hidden, E9 GND hidden, E13 GND hidden, E15 GND hidden, E18 GND hidden, E20 GND hidden, E24 GND hidden, E26 NC hidden, E28 GND hidden, E31 GND hidden, G9 NC hidden, G10 NC hidden, G11 NC hidden, G14 NC hidden, G15 NC hidden, G16 NC hidden, G17 NC hidden, G18 NC hidden, G19 NC hidden, G22 NC hidden, G23 NC hidden, G24 NC hidden, H29 NC hidden, J2 GND hidden, J5 GND hidden, J28 GND hidden, J31 GND hidden, K10 GND hidden, K11 GND hidden, K13 VCCAUX hidden, K20 VCCAUX hidden, K22 GND hidden, K23 GND hidden, L10 GND hidden, L11 GND hidden, L12 GND hidden, L13 GND hidden, L14 GND hidden, L15 GND hidden, L16 GND hidden, L17 GND hidden, L18 GND hidden, L19 GND hidden, L20 GND hidden, L21 GND hidden, L22 GND hidden, L23 GND hidden, L28 NC hidden, M11 GND hidden, M12 VCC hidden, M13 VCC hidden, M14 VCC hidden, M15 VCC hidden, M16 VCC hidden, M17 VCC hidden, M18 VCC hidden, M19 VCC hidden, M20 VCC hidden, M21 VCC hidden, M22 GND hidden, N2 GND hidden, N5 GND hidden, N10 VCCAUX hidden, N11 GND hidden, N12 VCC hidden, N13 GND hidden, N14 GND hidden, N15 GND hidden, N16 GND hidden, N17 GND hidden, N18 GND hidden, N19 GND hidden, N20 GND hidden, N21 VCC hidden, N22 GND hidden, N23 VCCAUX, N28 GND hidden, N31 GND hidden, P11 GND hidden, P12 VCC hidden, P13 GND hidden, P14 GND hidden, P15 GND hidden, P16 GND hidden, P17 GND hidden, P18 GND hidden, P19 GND hidden, P20 GND hidden, P21 VCC hidden, P22 GND hidden, R2 GND hidden, R5 GND hidden, R11 GND hidden, R12 VCC hidden, R13 GND hidden, R14 GND hidden, R15 GND hidden, R16 GND hidden, R17 GND hidden, R18 GND hidden, R19 GND hidden, R20 GND hidden, R21 VCC hidden, R22 GND hidden, R28 GND hidden, R31 GND hidden, T11 GND hidden, T12 VCC hidden, T13 GND hidden, T14 GND hidden, T15 GND hidden, T16 GND hidden, T17 GND hidden, T18 GND hidden, T19 GND hidden, T20 GND hidden, T21 VCC hidden, T22 GND hidden, U11 GND hidden, U12 VCC hidden, U13 GND hidden, U14 GND hidden, U15 GND hidden, U16 GND hidden, U17 GND hidden, U18 GND hidden, U19 GND hidden, U20 GND hidden, U21 VCC hidden, U22 GND hidden, V2 GND hidden, V5 GND hidden, V11 GND hidden, V12 VCC hidden, V13 GND hidden, V14 GND hidden, V15 GND hidden, V16 GND hidden, V17 GND hidden, V18 GND hidden, V19 GND hidden, V20 GND hidden, V21 VCC hidden, V22 GND hidden, V28 GND hidden, V30 NC hidden, V31 GND hidden, W11 GND hidden, W12 VCC hidden, W13 GND hidden, W14 GND hidden, W15 GND hidden, W16 GND hidden, W17 GND hidden, W18 GND hidden, W19 GND hidden, W20 GND hidden, W21 VCC hidden, W22 GND hidden, W27 NC hidden, Y2 GND hidden, Y10 VCCAUX hidden, Y11 GND hidden, Y12 VCC hidden, Y13 GND hidden, Y14 GND hidden, Y15 GND hidden, Y16 GND hidden, Y17 GND hidden, Y18 GND hidden, Y19 GND hidden, Y20 GND hidden, Y21 VCC hidden, Y22 GND hidden, Y23 VCCAUX hidden, Y31 GND hidden
part B pins: A2 PT6A, A3 PT6B, A4 PT9A, A5 PT9B, A7 PT13B, A8 PT20B, A9 PT24B, A10 PT31B, A11 PT38B, A13 PT42B, A14 PT49B, A15 PT54B, A16 PT60B, A17 PT63A, B3 PT4A, B4 PT4B, B7 PT13A, B8 PT20A, B10 PT31A, B11 PT38A, B14 PT49A, B16 PT60A, B17 PT63B, C7 PT11B, C8 PT18B, C9 PT24A, C10 PT29B, C11 PT36B, C13 PT42A, C14 PT47B, C15 PT54A, C16 PT58B, C17 PT65A, D7 PT11A, D8 PT18A, D9 PT22B, D10 PT29A, D11 PT36A, D13 PT40B, D14 PT47A, D15 PT51B, D16 PT58A, D17 PT65B, E8 PT15B, E10 PT27B, E11 PT33B, E14 PT45B, E16 PT56B, F8 PT15A, F9 PT22A, F10 PT27A, F11 PT33A, F13 PT40A, F14 PT45A, F15 PT51A, F16 PT56A, K12 VCCIO0 hidden, K14 VCCIO0 hidden, K15 VCCIO0 hidden, K16 VCCIO0, W6 NC hidden
part C pins: A18 PT71A, A19 PT76A, A20 PT83A, A22 PT87A, A23 PT94A, A24 PT101A, A25 PT105A, A26 PT112A, A28 PT116A, A29 PT116B, A30 PT119A, A31 PT119B, B19 PT76B, B22 PT87B, B23 PT94B, B25 PT105B, B26 PT112B, B29 PT121A, B30 PT121B, C18 PT71B, C19 PT78A, C20 PT83B, C22 PT89A, C23 PT96A, C24 PT101B, C25 PT107A, C26 PT114A, D18 PT74A, D19 PT78B, D20 PT85A, D22 PT89B, D23 PT96B, D24 PT103A, D25 PT107B, D26 PT114B, E17 PT69A, E19 PT80A, E22 PT92A, E23 PT98A, E25 PT110A, F17 PT69B, F18 PT74B, F19 PT80B, F20 PT85B, F22 PT92B, F23 PT98B, F24 PT103B, F25 PT110B, K17 VCCIO1 hidden, K18 VCCIO1 hidden, K19 VCCIO1 hidden, K21 VCCIO1, L5 NC hidden
part D pins: B32 PR17A, C28 PR11A, C29 PR11C, C30 PR11D, C31 PR17B, C32 PR20C, D28 PR11B, D29 PR14A, D30 PR17C, D31 PR17D, D32 PR20D, E29 PR14B, E30 PR20B, E32 PR23B, F28 PR14D, F29 PR14C, F30 PR20A, F31 PR23A, F32 PR23C, H4 NC hidden, H27 PR35A, H28 PR35B, H30 PR26B, H31 PR26A, H32 PR23D, J26 PR35C, J27 PR35D, J29 PR32C, J30 PR26C, J32 PR29B, K26 PR38B, K27 PR38A, K28 PR38C, K29 PR32D, K30 PR26D, K31 PR29A, K32 PR29C, L26 PR41C, L27 PR41D, L29 PR38D, L30 PR32B, L31 PR32A, L32 PR29D, M23 VCCIO2, N26 PR44B, N27 PR44A, N29 PR41B, N30 PR41A, P23 VCCIO2 hidden, P26 PR44D, P27 PR44C, R23 VCCIO2 hidden, T23 VCCIO2 hidden
part E pins: AA23 VCCIO3 hidden, AB26 PR74C, AB27 PR77B, AB28 PR77A, AB29 PR83B, AB30 PR83A, AB31 PR89B, AB32 PR92A, AC4 NC hidden, AC26 PR77C, AC27 PR74D, AC28 PR83C, AC30 PR89A, AC31 PR89C, AC32 PR92B, AD26 PR77D, AD27 PR80A, AD29 PR83D, AD30 PR86C, AD32 PR92C, AE27 PR80B, AE28 PR80C, AE29 PR80D, AE30 PR86D, AE31 PR89D, AE32 PR92D, N32 PR62A, P28 PR47A, P29 PR47B, P30 PR59B, P31 PR59A, P32 PR62B, R26 PR47C, R27 PR50A, R29 PR53A, R30 PR59C, R32 PR65A, T26 PR47D, T27 PR50B, T28 PR53B, T29 PR53C, T30 PR59D, T31 PR65B, T32 PR68A, U23 VCCIO3, U26 PR50D, U27 PR50C, U28 PR53D, U29 PR56A, U30 PR62D, U31 PR62C, U32 PR68B, V23 VCCIO3 hidden, V26 PR56D, V27 PR56C, V29 PR56B, V32 PR68C, W23 VCCIO3 hidden, W28 PR71D, W29 PR74B, W30 PR65C, W31 PR86A, W32 PR68D, Y26 PR71A, Y27 PR71B, Y28 PR71C, Y29 PR74A, Y30 PR65D, Y32 PR86B
part F pins: AB23 VCCIO4, AC23 VCCIO4 hidden, AG28 PB110A, AG29 PB110B, AG30 PB114B, AG32 PB119B, AH28 PB112B, AH30 PB114A, AH32 PB119A, AJ28 PB112A, AJ29 PB121A, AJ30 PB121B, AJ31 PB105B, AJ32 PB101B, AK28 PB98B, AK29 PB116A, AK30 PB116B, AK31 PB105A, AK32 PB101A, AL28 PB98A, AL30 PB103B, AL32 PB107B, AM28 PB96A, AM29 PB96B, AM30 PB103A, AM31 PB107A, V3 NC hidden
part G pins: AA10 VCCIO6 hidden, AB1 PL92A, AB2 PL89B, AB3 PL83A, AB4 PL83B, AB5 PL77A, AB6 PL77B, AB7 PL74C, AC1 PL92B, AC2 PL89C, AC3 PL89A, AC5 PL83C, AC6 PL74D, AC7 PL77C, AD1 PL92C, AD3 PL86C, AD4 PL83D, AD6 PL80A, AD7 PL77D, AE1 PL92D, AE2 PL89D, AE3 PL86D, AE4 PL80D, AE5 PL80C, AE6 PL80B, AG2 NC hidden, N1 PL62A, P1 PL62B, P2 PL59A, P3 PL59B, P4 PL47B, P5 PL47A, R1 PL65A, R3 PL59C, R4 PL53A, R6 PL50A, R7 PL47C, T1 PL68A, T2 PL65B, T3 PL59D, T4 PL53C, T5 PL53B, T6 PL50B, T7 PL47D, U1 PL68B, U2 PL62C, U3 PL62D, U4 PL56A, U5 PL53D, U6 PL50C, U7 PL50D, U10 VCCIO6, V1 PL68C, V4 PL56B, V6 PL56C, V7 PL56D, V10 VCCIO6 hidden, W1 PL68D, W2 PL86A, W3 PL65C, W4 PL74B, W5 PL71D, W10 VCCIO6 hidden, Y1 PL86B, Y3 PL65D, Y4 PL74A, Y5 PL71C, Y6 PL71B, Y7 PL71A
part H pins: B1 PL17A, C1 PL20C, C2 PL17B, C3 PL11D, C4 PL11C, C5 PL11A, D1 PL20D, D2 PL17D, D3 PL17C, D4 PL14A, D5 PL11B, E1 PL23B, E3 PL20B, E4 PL14B, F1 PL23C, F2 PL23A, F3 PL20A, F4 PL14C, F5 PL14D, H1 PL23D, H2 PL26A, H3 PL26B, H5 PL35B, H6 PL35A, J1 PL29B, J3 PL26C, J4 PL32C, J6 PL35D, J7 PL35C, K1 PL29C, K2 PL29A, K3 PL26D, K4 PL32D, K5 PL38C, K6 PL38A, K7 PL38B, L1 PL29D, L2 PL32A, L3 PL32B, L4 PL38D, L6 PL41D, L7 PL41C, M10 VCCIO7, N3 PL41A, N4 PL41B, N6 PL44A, N7 PL44B, P6 PL44C, P7 PL44D, P10 VCCIO7 hidden, R10 VCCIO7 hidden, T10 VCCIO7 hidden
part I pins: AB10 VCCIO8, AC10 VCCIO8 hidden, AG1 PB4A, AG3 PB13A, AH1 PB4B, AH3 PB13B, AJ1 PB6A, AJ2 PB11A, AJ3 PB15A, AK1 PB6B, AK2 PB11B, AK3 PB15B, AL1 PB9A, AL3 PB18A, AM2 PB9B
part J pins: AG4 ~{{INIT}}, AG5 TDO, AH4 ~{{PROGRAM}}, AJ4 DONE, AJ5 TDI, AK4 CFG_2, AK5 TCK, AK15 RESERVED hidden, AK16 RESERVED hidden, AK24 RESERVED hidden, AK25 RESERVED hidden, AL4 CFG_1, AM3 CCLK, AM4 CFG_0, AM5 TMS
part K pins: AK9 HDTXP0_D0CH0, AK10 HDTXN0_D0CH0, AK12 HDTXP0_D0CH1, AK13 HDTXN0_D0CH1, AM8 HDRXP0_D0CH0, AM9 HDRXN0_D0CH0, AM11 HDRXP0_D0CH1, AM12 HDRXN0_D0CH1, AM14 REFCLKP_D0, AM15 REFCLKN_D0
part L pins: AK18 HDTXP0_D1CH0, AK19 HDTXN0_D1CH0, AK21 HDTXP0_D1CH1, AK22 HDTXN0_D1CH1, AM17 HDRXP0_D1CH0, AM18 HDRXN0_D1CH0, AM20 HDRXP0_D1CH1, AM21 HDRXN0_D1CH1, AM23 REFCLKP_D1, AM24 REFCLKN_D1

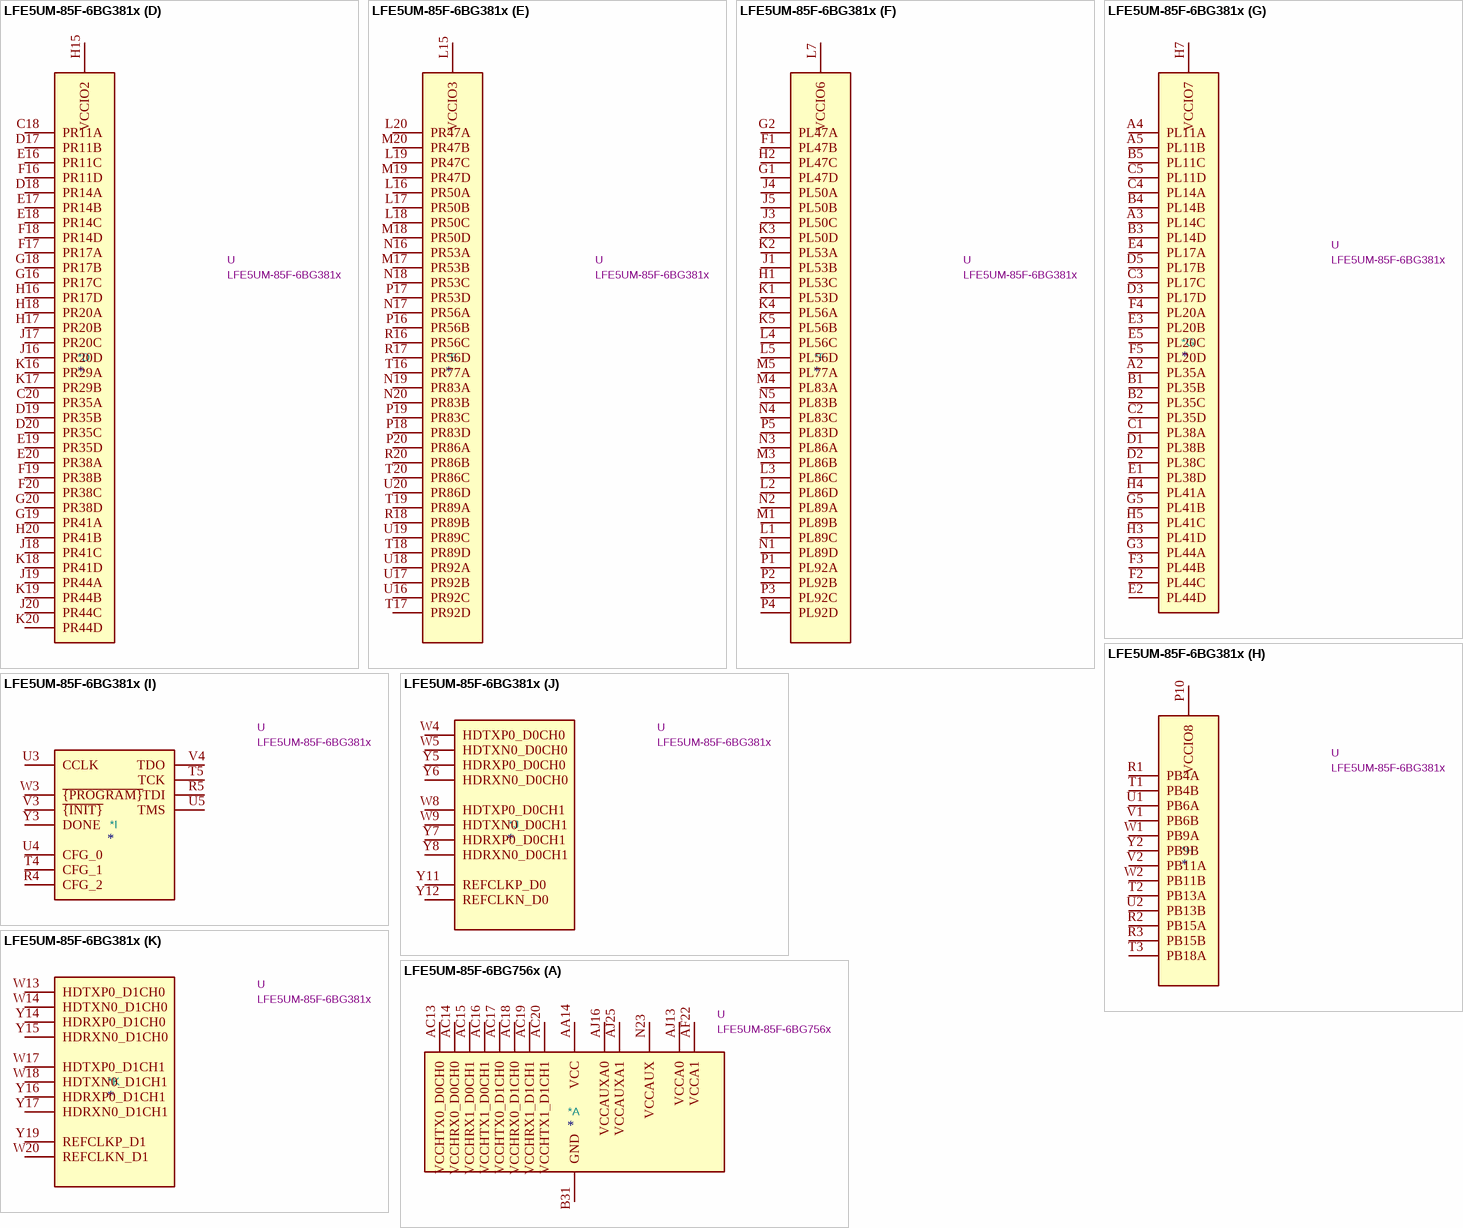
[diagram p14: symbols LFE5UM-85F-6BG381x to LFE5UM-85F-6BG756x]

## LFE5UM-85F-6BG381x
designator *  value LFE5UM-85F-6BG381x  Reference: U
ki_keywords: FPGA programmable logic; ki_description: ECP5 FPGA, 84K LUTs, 1.2V, 3.2Gbps SERDES, BGA-381; ki_fp_filters: Lattice*caBGA*17.0x17.0mm*Layout20x20*P0.8mm*; Footprint: Package_BGA:Lattice_caBGA-381_17.0x17.0mm_Layout20x20_P0.8mm_Ball0.4mm_Pad0.4mm_NSMD; Datasheet: https://www.latticesemi.com/view_document?document_id=50461
part A pins: B7 GND hidden, B14 GND hidden, C19 GND, D4 GND hidden, F6 VCCAUX hidden, F7 GND hidden, F8 GND hidden, F13 GND hidden, F14 GND hidden, F15 VCCAUX hidden, G4 GND hidden, G6 GND hidden, G7 GND hidden, G8 GND hidden, G9 GND hidden, G10 GND hidden, G11 GND hidden, G12 GND hidden, G13 GND hidden, G14 GND hidden, G15 GND hidden, G17 GND hidden, H8 VCC hidden, H9 VCC hidden, H10 VCC hidden, H11 VCC hidden, H12 VCC hidden, H13 VCC, H19 GND hidden, J2 GND hidden, J7 GND hidden, J8 VCC hidden, J9 GND hidden, J10 GND hidden, J11 GND hidden, J12 GND hidden, J13 VCC hidden, J14 GND hidden, K6 GND hidden, K7 GND hidden, K8 VCC hidden, K9 GND hidden, K10 GND hidden, K11 GND hidden, K12 GND hidden, K13 VCC hidden, K14 GND hidden, K15 GND hidden, L8 VCC hidden, L9 GND hidden, L10 GND hidden, L11 GND hidden, L12 GND hidden, L13 VCC hidden, M2 GND hidden, M7 GND hidden, M8 VCC hidden, M9 GND hidden, M10 GND hidden, M11 GND hidden, M12 GND hidden, M13 VCC hidden, M14 GND hidden, M16 GND hidden, N6 GND hidden, N7 GND hidden, N8 VCC hidden, N9 VCC hidden, N10 VCC hidden, N11 VCC hidden, N12 VCC hidden, N13 VCC hidden, N14 GND hidden, N15 GND hidden, P6 VCCAUX hidden, P7 GND hidden, P8 GND hidden, P11 GND hidden, P12 GND hidden, P13 GND hidden, P14 GND hidden, P15 VCCAUX, R19 GND hidden, T6 VCCA0, T7 VCCHTX0_D0CH0, T8 VCCHRX0_D0CH0, T9 VCCHRX1_D0CH1, T10 VCCHTX1_D0CH1, T11 VCCHTX0_D1CH0, T12 VCCHRX0_D1CH0, T13 VCCHRX1_D1CH1, T14 VCCHTX1_D1CH1, T15 VCCA1, U6 VCCA0 hidden, U7 GND hidden, U8 GND hidden, U9 GND hidden, U10 GND hidden, U11 GND hidden, U12 GND hidden, U13 GND hidden, U14 GND hidden, U15 VCCA1 hidden, V5 GND hidden, V6 GND hidden, V7 GND hidden, V8 GND hidden, V9 GND hidden, V10 VCCAUXA0 hidden, V11 VCCAUXA0, V12 GND hidden, V13 GND hidden, V14 GND hidden, V15 GND hidden, V16 GND hidden, V17 VCCAUXA1 hidden, V18 VCCAUXA1, V19 GND hidden, V20 GND hidden, W6 GND hidden, W7 GND hidden, W12 GND hidden, W15 GND hidden, W16 GND hidden, W19 GND hidden
part B pins: A6 PT4A, A7 PT18A, A8 PT18B, A9 PT60A, A10 PT63A, A11 PT63B, B6 PT4B, B8 PT15B, B9 PT58A, B10 PT60B, B11 PT65A, C6 PT11A, C7 PT11B, C8 PT15A, C9 PT54A, C10 PT58B, C11 PT65B, D6 PT6B, D7 PT9B, D8 PT13B, D9 PT20A, D10 PT56A, E6 PT6A, E7 PT9A, E8 PT13A, E9 PT20B, E10 PT56B, F9 VCCIO0 hidden, F10 VCCIO0
part C pins: A12 PT76A, A13 PT76B, A14 PT83A, A15 PT103A, A16 PT110A, A17 PT116A, A18 PT119A, A19 PT121A, B12 PT71A, B13 PT78A, B15 PT105A, B16 PT110B, B17 PT114A, B18 PT116B, B19 PT119B, B20 PT121B, C12 PT71B, C13 PT78B, C14 PT83B, C15 PT105B, C16 PT112A, C17 PT114B, D11 PT69A, D12 PT74A, D13 PT80A, D14 PT85A, D15 PT107A, D16 PT112B, E11 PT69B, E12 PT74B, E13 PT80B, E14 PT85B, E15 PT107B, F11 VCCIO1 hidden, F12 VCCIO1
part D pins: C18 PR11A, C20 PR35A, D17 PR11B, D18 PR14A, D19 PR35B, D20 PR35C, E16 PR11C, E17 PR14B, E18 PR14C, E19 PR35D, E20 PR38A, F16 PR11D, F17 PR17A, F18 PR14D, F19 PR38B, F20 PR38C, G16 PR17C, G18 PR17B, G19 PR41A, G20 PR38D, H14 VCCIO2 hidden, H15 VCCIO2, H16 PR17D, H17 PR20B, H18 PR20A, H20 PR41B, J15 VCCIO2 hidden, J16 PR20D, J17 PR20C, J18 PR41C, J19 PR44A, J20 PR44C, K16 PR29A, K17 PR29B, K18 PR41D, K19 PR44B, K20 PR44D
part E pins: L14 VCCIO3 hidden, L15 VCCIO3, L16 PR50A, L17 PR50B, L18 PR50C, L19 PR47C, L20 PR47A, M15 VCCIO3 hidden, M17 PR53B, M18 PR50D, M19 PR47D, M20 PR47B, N16 PR53A, N17 PR56A, N18 PR53C, N19 PR83A, N20 PR83B, P16 PR56B, P17 PR53D, P18 PR83D, P19 PR83C, P20 PR86A, R16 PR56C, R17 PR56D, R18 PR89B, R20 PR86B, T16 PR77A, T17 PR92D, T18 PR89D, T19 PR89A, T20 PR86C, U16 PR92C, U17 PR92B, U18 PR92A, U19 PR89C, U20 PR86D
part F pins: F1 PL47B, G1 PL47D, G2 PL47A, H1 PL53C, H2 PL47C, J1 PL53B, J3 PL50C, J4 PL50A, J5 PL50B, K1 PL53D, K2 PL53A, K3 PL50D, K4 PL56A, K5 PL56B, L1 PL89C, L2 PL86D, L3 PL86C, L4 PL56C, L5 PL56D, L6 VCCIO6 hidden, L7 VCCIO6, M1 PL89B, M3 PL86B, M4 PL83A, M5 PL77A, M6 VCCIO6 hidden, N1 PL89D, N2 PL89A, N3 PL86A, N4 PL83C, N5 PL83B, P1 PL92A, P2 PL92B, P3 PL92C, P4 PL92D, P5 PL83D
part G pins: A2 PL35A, A3 PL14C, A4 PL11A, A5 PL11B, B1 PL35B, B2 PL35C, B3 PL14D, B4 PL14B, B5 PL11C, C1 PL38A, C2 PL35D, C3 PL17C, C4 PL14A, C5 PL11D, D1 PL38B, D2 PL38C, D3 PL17D, D5 PL17B, E1 PL38D, E2 PL44D, E3 PL20B, E4 PL17A, E5 PL20C, F2 PL44C, F3 PL44B, F4 PL20A, F5 PL20D, G3 PL44A, G5 PL41B, H3 PL41D, H4 PL41A, H5 PL41C, H6 VCCIO7 hidden, H7 VCCIO7, J6 VCCIO7 hidden
part H pins: P9 VCCIO8 hidden, P10 VCCIO8, R1 PB4A, R2 PB15A, R3 PB15B, T1 PB4B, T2 PB13A, T3 PB18A, U1 PB6A, U2 PB13B, V1 PB6B, V2 PB11A, W1 PB9A, W2 PB11B, Y2 PB9B
part I pins: R4 CFG_2, R5 TDI, T4 CFG_1, T5 TCK, U3 CCLK, U4 CFG_0, U5 TMS, V3 ~{{INIT}}, V4 TDO, W3 ~{{PROGRAM}}, W10 RESERVED hidden, W11 RESERVED hidden, Y3 DONE
part J pins: W4 HDTXP0_D0CH0, W5 HDTXN0_D0CH0, W8 HDTXP0_D0CH1, W9 HDTXN0_D0CH1, Y5 HDRXP0_D0CH0, Y6 HDRXN0_D0CH0, Y7 HDRXP0_D0CH1, Y8 HDRXN0_D0CH1, Y11 REFCLKP_D0, Y12 REFCLKN_D0
part K pins: W13 HDTXP0_D1CH0, W14 HDTXN0_D1CH0, W17 HDTXP0_D1CH1, W18 HDTXN0_D1CH1, W20 REFCLKN_D1, Y14 HDRXP0_D1CH0, Y15 HDRXN0_D1CH0, Y16 HDRXP0_D1CH1, Y17 HDRXN0_D1CH1, Y19 REFCLKP_D1

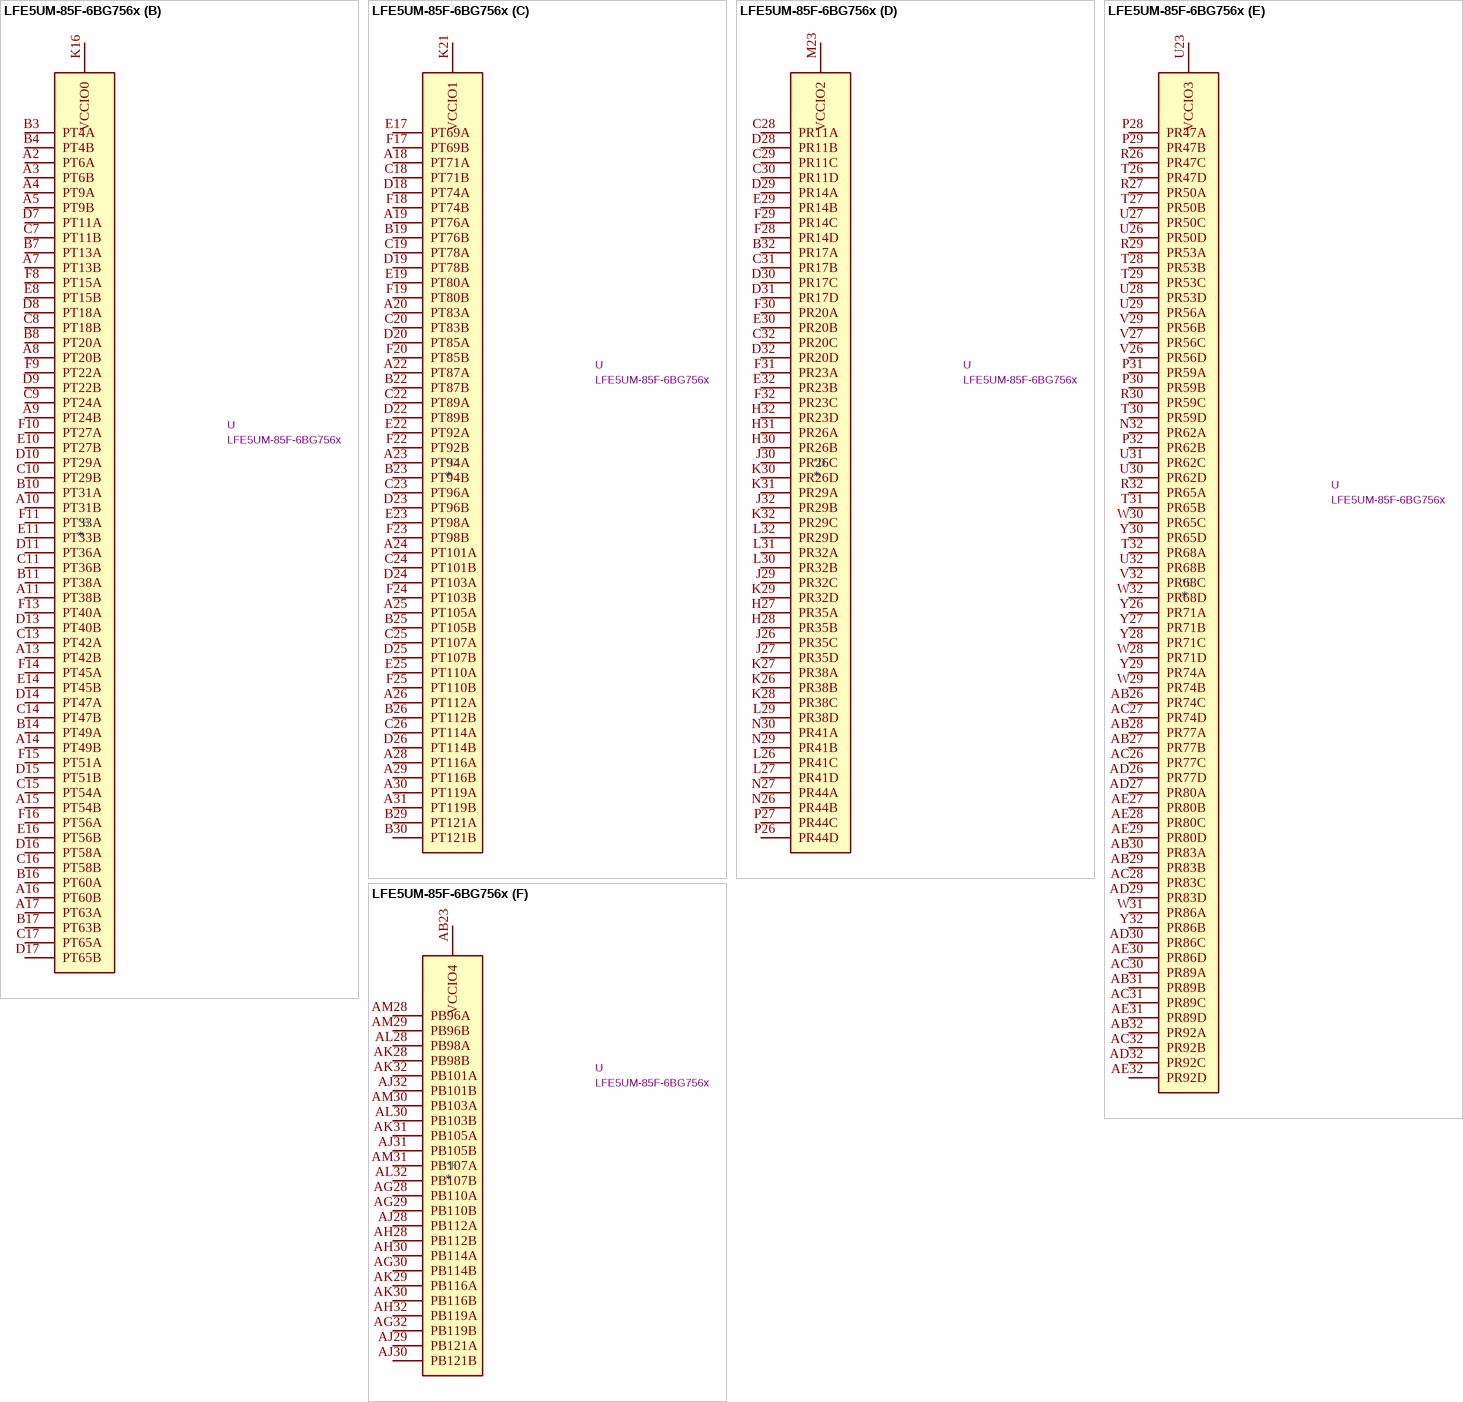
[diagram p15: symbol LFE5UM-85F-6BG756x]

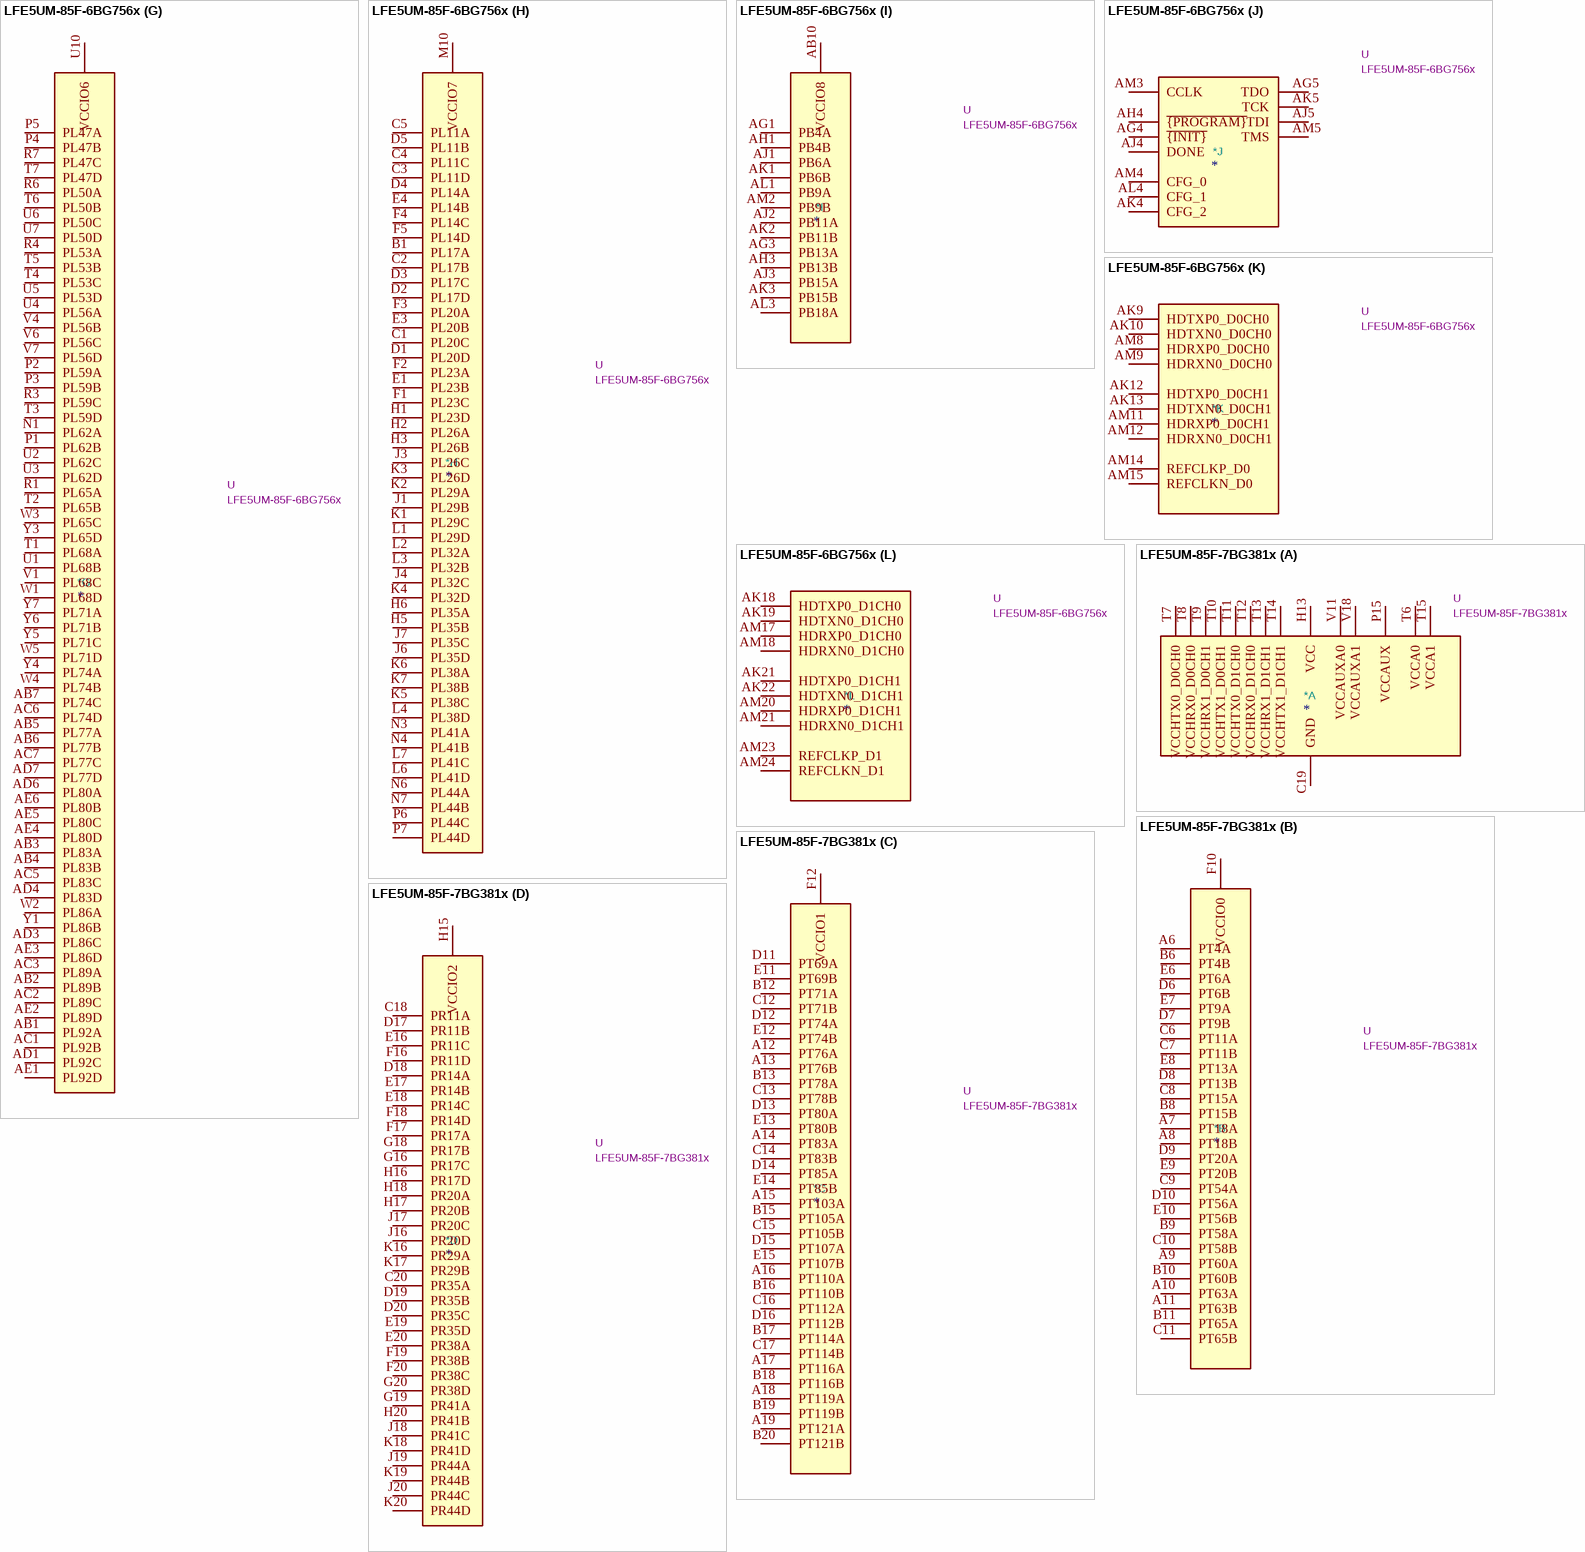
[diagram p16: symbols LFE5UM-85F-6BG756x to LFE5UM-85F-7BG381x]

## LFE5UM-85F-6BG756x
designator *  value LFE5UM-85F-6BG756x  Reference: U
ki_keywords: FPGA programmable logic; ki_description: ECP5 FPGA, 84K LUTs, 1.2V, 3.2Gbps SERDES, BGA-756; ki_fp_filters: Lattice*caBGA*27.0x27.0mm*Layout32x32*P0.8mm*; Footprint: Package_BGA:Lattice_caBGA-756_27.0x27.0mm_Layout32x32_P0.8mm; Datasheet: https://www.latticesemi.com/view_document?document_id=50461
part A pins: AA11 GND hidden, AA12 VCC hidden, AA13 VCC hidden, AA14 VCC, AA15 VCC hidden, AA16 VCC hidden, AA17 VCC hidden, AA18 VCC hidden, AA19 VCC hidden, AA20 VCC hidden, AA21 VCC hidden, AA22 GND hidden, AB11 GND hidden, AB12 GND hidden, AB13 GND hidden, AB14 GND hidden, AB15 GND hidden, AB16 GND hidden, AB17 GND hidden, AB18 GND hidden, AB19 GND hidden, AB20 GND hidden, AB21 GND hidden, AB22 GND hidden, AC11 VCCAUX hidden, AC12 GND hidden, AC13 VCCHTX0_D0CH0, AC14 VCCHRX0_D0CH0, AC15 VCCHRX1_D0CH1, AC16 VCCHTX1_D0CH1, AC17 VCCHTX0_D1CH0, AC18 VCCHRX0_D1CH0, AC19 VCCHRX1_D1CH1, AC20 VCCHTX1_D1CH1, AC21 GND hidden, AC22 VCCAUX hidden, AC29 NC hidden, AD2 GND hidden, AD5 GND hidden, AD28 GND hidden, AD31 GND hidden, AE7 NC hidden, AE26 NC hidden, AF11 GND hidden, AF12 GND hidden, AF14 GND hidden, AF15 GND hidden, AF16 GND hidden, AF17 GND hidden, AF19 GND hidden, AF20 GND hidden, AF22 VCCA1, AF23 GND hidden, AG9 VCCA0 hidden, AG11 GND hidden, AG12 VCCA0 hidden, AG14 GND hidden, AG15 GND hidden, AG16 GND hidden, AG17 GND hidden, AG19 VCCA1 hidden, AG20 GND hidden, AG22 VCCA1 hidden, AG23 GND hidden, AG24 NC hidden, AG31 NC hidden, AH2 GND hidden, AH5 GND hidden, AH7 GND hidden, AH8 GND hidden, AH9 VCCA0 hidden, AH11 GND hidden, AH12 VCCA0 hidden, AH14 GND hidden, AH15 GND hidden, AH16 GND hidden, AH17 GND hidden, AH19 VCCA1 hidden, AH20 GND hidden, AH22 VCCA1 hidden, AH23 GND hidden, AH24 GND hidden, AH25 GND hidden, AH26 GND hidden, AH29 GND hidden, AH31 GND hidden, AJ7 GND hidden, AJ8 GND hidden, AJ9 VCCA0 hidden, AJ10 VCCA0 hidden, AJ11 GND hidden, AJ12 VCCA0 hidden, AJ13 VCCA0, AJ14 GND hidden, AJ15 VCCAUXA0 hidden, AJ16 VCCAUXA0, AJ17 GND hidden, AJ18 VCCA1 hidden, AJ19 VCCA1 hidden, AJ20 GND hidden, AJ21 VCCA1 hidden, AJ22 VCCA1 hidden, AJ23 GND hidden, AJ24 VCCAUXA1 hidden, AJ25 VCCAUXA1, AJ26 GND hidden, AK7 GND hidden, AK8 GND hidden, AK11 GND hidden, AK14 GND hidden, AK17 GND hidden, AK20 GND hidden, AK23 GND hidden, AK26 GND hidden, AL2 GND hidden, AL5 GND hidden, AL7 GND hidden, AL8 GND hidden, AL9 GND hidden, AL11 GND hidden, AL12 GND hidden, AL14 GND hidden, AL15 GND hidden, AL17 GND hidden, AL18 GND hidden, AL20 GND hidden, AL21 GND hidden, AL23 GND hidden, AL24 GND hidden, AL26 GND hidden, AL29 GND hidden, AL31 GND hidden, AM7 GND hidden, AM26 GND hidden, B2 GND hidden, B5 GND hidden, B9 GND hidden, B13 GND hidden, B15 GND hidden, B18 GND hidden, B20 GND hidden, B24 GND hidden, B28 GND hidden, B31 GND, E2 GND hidden, E5 GND hidden, E7 NC hidden, E9 GND hidden, E13 GND hidden, E15 GND hidden, E18 GND hidden, E20 GND hidden, E24 GND hidden, E26 NC hidden, E28 GND hidden, E31 GND hidden, G9 NC hidden, G10 NC hidden, G11 NC hidden, G14 NC hidden, G15 NC hidden, G16 NC hidden, G17 NC hidden, G18 NC hidden, G19 NC hidden, G22 NC hidden, G23 NC hidden, G24 NC hidden, H29 NC hidden, J2 GND hidden, J5 GND hidden, J28 GND hidden, J31 GND hidden, K10 GND hidden, K11 GND hidden, K13 VCCAUX hidden, K20 VCCAUX hidden, K22 GND hidden, K23 GND hidden, L10 GND hidden, L11 GND hidden, L12 GND hidden, L13 GND hidden, L14 GND hidden, L15 GND hidden, L16 GND hidden, L17 GND hidden, L18 GND hidden, L19 GND hidden, L20 GND hidden, L21 GND hidden, L22 GND hidden, L23 GND hidden, L28 NC hidden, M11 GND hidden, M12 VCC hidden, M13 VCC hidden, M14 VCC hidden, M15 VCC hidden, M16 VCC hidden, M17 VCC hidden, M18 VCC hidden, M19 VCC hidden, M20 VCC hidden, M21 VCC hidden, M22 GND hidden, N2 GND hidden, N5 GND hidden, N10 VCCAUX hidden, N11 GND hidden, N12 VCC hidden, N13 GND hidden, N14 GND hidden, N15 GND hidden, N16 GND hidden, N17 GND hidden, N18 GND hidden, N19 GND hidden, N20 GND hidden, N21 VCC hidden, N22 GND hidden, N23 VCCAUX, N28 GND hidden, N31 GND hidden, P11 GND hidden, P12 VCC hidden, P13 GND hidden, P14 GND hidden, P15 GND hidden, P16 GND hidden, P17 GND hidden, P18 GND hidden, P19 GND hidden, P20 GND hidden, P21 VCC hidden, P22 GND hidden, R2 GND hidden, R5 GND hidden, R11 GND hidden, R12 VCC hidden, R13 GND hidden, R14 GND hidden, R15 GND hidden, R16 GND hidden, R17 GND hidden, R18 GND hidden, R19 GND hidden, R20 GND hidden, R21 VCC hidden, R22 GND hidden, R28 GND hidden, R31 GND hidden, T11 GND hidden, T12 VCC hidden, T13 GND hidden, T14 GND hidden, T15 GND hidden, T16 GND hidden, T17 GND hidden, T18 GND hidden, T19 GND hidden, T20 GND hidden, T21 VCC hidden, T22 GND hidden, U11 GND hidden, U12 VCC hidden, U13 GND hidden, U14 GND hidden, U15 GND hidden, U16 GND hidden, U17 GND hidden, U18 GND hidden, U19 GND hidden, U20 GND hidden, U21 VCC hidden, U22 GND hidden, V2 GND hidden, V5 GND hidden, V11 GND hidden, V12 VCC hidden, V13 GND hidden, V14 GND hidden, V15 GND hidden, V16 GND hidden, V17 GND hidden, V18 GND hidden, V19 GND hidden, V20 GND hidden, V21 VCC hidden, V22 GND hidden, V28 GND hidden, V30 NC hidden, V31 GND hidden, W11 GND hidden, W12 VCC hidden, W13 GND hidden, W14 GND hidden, W15 GND hidden, W16 GND hidden, W17 GND hidden, W18 GND hidden, W19 GND hidden, W20 GND hidden, W21 VCC hidden, W22 GND hidden, W27 NC hidden, Y2 GND hidden, Y10 VCCAUX hidden, Y11 GND hidden, Y12 VCC hidden, Y13 GND hidden, Y14 GND hidden, Y15 GND hidden, Y16 GND hidden, Y17 GND hidden, Y18 GND hidden, Y19 GND hidden, Y20 GND hidden, Y21 VCC hidden, Y22 GND hidden, Y23 VCCAUX hidden, Y31 GND hidden
part B pins: A2 PT6A, A3 PT6B, A4 PT9A, A5 PT9B, A7 PT13B, A8 PT20B, A9 PT24B, A10 PT31B, A11 PT38B, A13 PT42B, A14 PT49B, A15 PT54B, A16 PT60B, A17 PT63A, B3 PT4A, B4 PT4B, B7 PT13A, B8 PT20A, B10 PT31A, B11 PT38A, B14 PT49A, B16 PT60A, B17 PT63B, C7 PT11B, C8 PT18B, C9 PT24A, C10 PT29B, C11 PT36B, C13 PT42A, C14 PT47B, C15 PT54A, C16 PT58B, C17 PT65A, D7 PT11A, D8 PT18A, D9 PT22B, D10 PT29A, D11 PT36A, D13 PT40B, D14 PT47A, D15 PT51B, D16 PT58A, D17 PT65B, E8 PT15B, E10 PT27B, E11 PT33B, E14 PT45B, E16 PT56B, F8 PT15A, F9 PT22A, F10 PT27A, F11 PT33A, F13 PT40A, F14 PT45A, F15 PT51A, F16 PT56A, K12 VCCIO0 hidden, K14 VCCIO0 hidden, K15 VCCIO0 hidden, K16 VCCIO0, W6 NC hidden
part C pins: A18 PT71A, A19 PT76A, A20 PT83A, A22 PT87A, A23 PT94A, A24 PT101A, A25 PT105A, A26 PT112A, A28 PT116A, A29 PT116B, A30 PT119A, A31 PT119B, B19 PT76B, B22 PT87B, B23 PT94B, B25 PT105B, B26 PT112B, B29 PT121A, B30 PT121B, C18 PT71B, C19 PT78A, C20 PT83B, C22 PT89A, C23 PT96A, C24 PT101B, C25 PT107A, C26 PT114A, D18 PT74A, D19 PT78B, D20 PT85A, D22 PT89B, D23 PT96B, D24 PT103A, D25 PT107B, D26 PT114B, E17 PT69A, E19 PT80A, E22 PT92A, E23 PT98A, E25 PT110A, F17 PT69B, F18 PT74B, F19 PT80B, F20 PT85B, F22 PT92B, F23 PT98B, F24 PT103B, F25 PT110B, K17 VCCIO1 hidden, K18 VCCIO1 hidden, K19 VCCIO1 hidden, K21 VCCIO1, L5 NC hidden
part D pins: B32 PR17A, C28 PR11A, C29 PR11C, C30 PR11D, C31 PR17B, C32 PR20C, D28 PR11B, D29 PR14A, D30 PR17C, D31 PR17D, D32 PR20D, E29 PR14B, E30 PR20B, E32 PR23B, F28 PR14D, F29 PR14C, F30 PR20A, F31 PR23A, F32 PR23C, H4 NC hidden, H27 PR35A, H28 PR35B, H30 PR26B, H31 PR26A, H32 PR23D, J26 PR35C, J27 PR35D, J29 PR32C, J30 PR26C, J32 PR29B, K26 PR38B, K27 PR38A, K28 PR38C, K29 PR32D, K30 PR26D, K31 PR29A, K32 PR29C, L26 PR41C, L27 PR41D, L29 PR38D, L30 PR32B, L31 PR32A, L32 PR29D, M23 VCCIO2, N26 PR44B, N27 PR44A, N29 PR41B, N30 PR41A, P23 VCCIO2 hidden, P26 PR44D, P27 PR44C, R23 VCCIO2 hidden, T23 VCCIO2 hidden
part E pins: AA23 VCCIO3 hidden, AB26 PR74C, AB27 PR77B, AB28 PR77A, AB29 PR83B, AB30 PR83A, AB31 PR89B, AB32 PR92A, AC4 NC hidden, AC26 PR77C, AC27 PR74D, AC28 PR83C, AC30 PR89A, AC31 PR89C, AC32 PR92B, AD26 PR77D, AD27 PR80A, AD29 PR83D, AD30 PR86C, AD32 PR92C, AE27 PR80B, AE28 PR80C, AE29 PR80D, AE30 PR86D, AE31 PR89D, AE32 PR92D, N32 PR62A, P28 PR47A, P29 PR47B, P30 PR59B, P31 PR59A, P32 PR62B, R26 PR47C, R27 PR50A, R29 PR53A, R30 PR59C, R32 PR65A, T26 PR47D, T27 PR50B, T28 PR53B, T29 PR53C, T30 PR59D, T31 PR65B, T32 PR68A, U23 VCCIO3, U26 PR50D, U27 PR50C, U28 PR53D, U29 PR56A, U30 PR62D, U31 PR62C, U32 PR68B, V23 VCCIO3 hidden, V26 PR56D, V27 PR56C, V29 PR56B, V32 PR68C, W23 VCCIO3 hidden, W28 PR71D, W29 PR74B, W30 PR65C, W31 PR86A, W32 PR68D, Y26 PR71A, Y27 PR71B, Y28 PR71C, Y29 PR74A, Y30 PR65D, Y32 PR86B
part F pins: AB23 VCCIO4, AC23 VCCIO4 hidden, AG28 PB110A, AG29 PB110B, AG30 PB114B, AG32 PB119B, AH28 PB112B, AH30 PB114A, AH32 PB119A, AJ28 PB112A, AJ29 PB121A, AJ30 PB121B, AJ31 PB105B, AJ32 PB101B, AK28 PB98B, AK29 PB116A, AK30 PB116B, AK31 PB105A, AK32 PB101A, AL28 PB98A, AL30 PB103B, AL32 PB107B, AM28 PB96A, AM29 PB96B, AM30 PB103A, AM31 PB107A, V3 NC hidden
part G pins: AA10 VCCIO6 hidden, AB1 PL92A, AB2 PL89B, AB3 PL83A, AB4 PL83B, AB5 PL77A, AB6 PL77B, AB7 PL74C, AC1 PL92B, AC2 PL89C, AC3 PL89A, AC5 PL83C, AC6 PL74D, AC7 PL77C, AD1 PL92C, AD3 PL86C, AD4 PL83D, AD6 PL80A, AD7 PL77D, AE1 PL92D, AE2 PL89D, AE3 PL86D, AE4 PL80D, AE5 PL80C, AE6 PL80B, AG2 NC hidden, N1 PL62A, P1 PL62B, P2 PL59A, P3 PL59B, P4 PL47B, P5 PL47A, R1 PL65A, R3 PL59C, R4 PL53A, R6 PL50A, R7 PL47C, T1 PL68A, T2 PL65B, T3 PL59D, T4 PL53C, T5 PL53B, T6 PL50B, T7 PL47D, U1 PL68B, U2 PL62C, U3 PL62D, U4 PL56A, U5 PL53D, U6 PL50C, U7 PL50D, U10 VCCIO6, V1 PL68C, V4 PL56B, V6 PL56C, V7 PL56D, V10 VCCIO6 hidden, W1 PL68D, W2 PL86A, W3 PL65C, W4 PL74B, W5 PL71D, W10 VCCIO6 hidden, Y1 PL86B, Y3 PL65D, Y4 PL74A, Y5 PL71C, Y6 PL71B, Y7 PL71A
part H pins: B1 PL17A, C1 PL20C, C2 PL17B, C3 PL11D, C4 PL11C, C5 PL11A, D1 PL20D, D2 PL17D, D3 PL17C, D4 PL14A, D5 PL11B, E1 PL23B, E3 PL20B, E4 PL14B, F1 PL23C, F2 PL23A, F3 PL20A, F4 PL14C, F5 PL14D, H1 PL23D, H2 PL26A, H3 PL26B, H5 PL35B, H6 PL35A, J1 PL29B, J3 PL26C, J4 PL32C, J6 PL35D, J7 PL35C, K1 PL29C, K2 PL29A, K3 PL26D, K4 PL32D, K5 PL38C, K6 PL38A, K7 PL38B, L1 PL29D, L2 PL32A, L3 PL32B, L4 PL38D, L6 PL41D, L7 PL41C, M10 VCCIO7, N3 PL41A, N4 PL41B, N6 PL44A, N7 PL44B, P6 PL44C, P7 PL44D, P10 VCCIO7 hidden, R10 VCCIO7 hidden, T10 VCCIO7 hidden
part I pins: AB10 VCCIO8, AC10 VCCIO8 hidden, AG1 PB4A, AG3 PB13A, AH1 PB4B, AH3 PB13B, AJ1 PB6A, AJ2 PB11A, AJ3 PB15A, AK1 PB6B, AK2 PB11B, AK3 PB15B, AL1 PB9A, AL3 PB18A, AM2 PB9B
part J pins: AG4 ~{{INIT}}, AG5 TDO, AH4 ~{{PROGRAM}}, AJ4 DONE, AJ5 TDI, AK4 CFG_2, AK5 TCK, AK15 RESERVED hidden, AK16 RESERVED hidden, AK24 RESERVED hidden, AK25 RESERVED hidden, AL4 CFG_1, AM3 CCLK, AM4 CFG_0, AM5 TMS
part K pins: AK9 HDTXP0_D0CH0, AK10 HDTXN0_D0CH0, AK12 HDTXP0_D0CH1, AK13 HDTXN0_D0CH1, AM8 HDRXP0_D0CH0, AM9 HDRXN0_D0CH0, AM11 HDRXP0_D0CH1, AM12 HDRXN0_D0CH1, AM14 REFCLKP_D0, AM15 REFCLKN_D0
part L pins: AK18 HDTXP0_D1CH0, AK19 HDTXN0_D1CH0, AK21 HDTXP0_D1CH1, AK22 HDTXN0_D1CH1, AM17 HDRXP0_D1CH0, AM18 HDRXN0_D1CH0, AM20 HDRXP0_D1CH1, AM21 HDRXN0_D1CH1, AM23 REFCLKP_D1, AM24 REFCLKN_D1

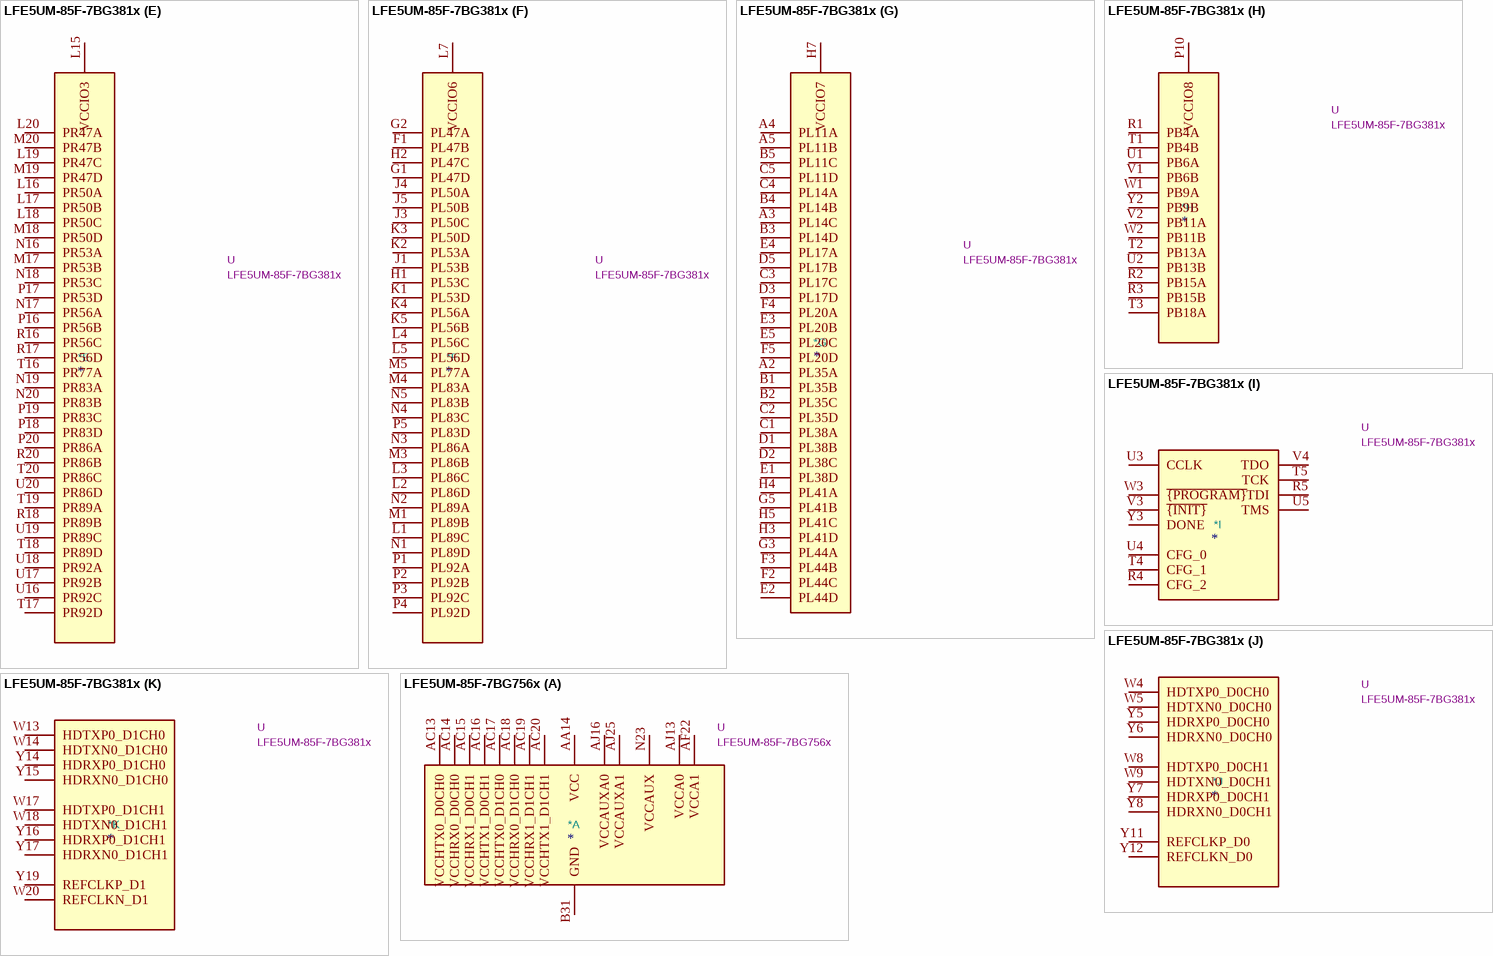
[diagram p17: symbols LFE5UM-85F-7BG381x to LFE5UM-85F-7BG756x]

## LFE5UM-85F-7BG381x
designator *  value LFE5UM-85F-7BG381x  Reference: U
ki_keywords: FPGA programmable logic; ki_description: ECP5 FPGA, 84K LUTs, 1.2V, 3.2Gbps SERDES, BGA-381; ki_fp_filters: Lattice*caBGA*17.0x17.0mm*Layout20x20*P0.8mm*; Footprint: Package_BGA:Lattice_caBGA-381_17.0x17.0mm_Layout20x20_P0.8mm_Ball0.4mm_Pad0.4mm_NSMD; Datasheet: https://www.latticesemi.com/view_document?document_id=50461
part A pins: B7 GND hidden, B14 GND hidden, C19 GND, D4 GND hidden, F6 VCCAUX hidden, F7 GND hidden, F8 GND hidden, F13 GND hidden, F14 GND hidden, F15 VCCAUX hidden, G4 GND hidden, G6 GND hidden, G7 GND hidden, G8 GND hidden, G9 GND hidden, G10 GND hidden, G11 GND hidden, G12 GND hidden, G13 GND hidden, G14 GND hidden, G15 GND hidden, G17 GND hidden, H8 VCC hidden, H9 VCC hidden, H10 VCC hidden, H11 VCC hidden, H12 VCC hidden, H13 VCC, H19 GND hidden, J2 GND hidden, J7 GND hidden, J8 VCC hidden, J9 GND hidden, J10 GND hidden, J11 GND hidden, J12 GND hidden, J13 VCC hidden, J14 GND hidden, K6 GND hidden, K7 GND hidden, K8 VCC hidden, K9 GND hidden, K10 GND hidden, K11 GND hidden, K12 GND hidden, K13 VCC hidden, K14 GND hidden, K15 GND hidden, L8 VCC hidden, L9 GND hidden, L10 GND hidden, L11 GND hidden, L12 GND hidden, L13 VCC hidden, M2 GND hidden, M7 GND hidden, M8 VCC hidden, M9 GND hidden, M10 GND hidden, M11 GND hidden, M12 GND hidden, M13 VCC hidden, M14 GND hidden, M16 GND hidden, N6 GND hidden, N7 GND hidden, N8 VCC hidden, N9 VCC hidden, N10 VCC hidden, N11 VCC hidden, N12 VCC hidden, N13 VCC hidden, N14 GND hidden, N15 GND hidden, P6 VCCAUX hidden, P7 GND hidden, P8 GND hidden, P11 GND hidden, P12 GND hidden, P13 GND hidden, P14 GND hidden, P15 VCCAUX, R19 GND hidden, T6 VCCA0, T7 VCCHTX0_D0CH0, T8 VCCHRX0_D0CH0, T9 VCCHRX1_D0CH1, T10 VCCHTX1_D0CH1, T11 VCCHTX0_D1CH0, T12 VCCHRX0_D1CH0, T13 VCCHRX1_D1CH1, T14 VCCHTX1_D1CH1, T15 VCCA1, U6 VCCA0 hidden, U7 GND hidden, U8 GND hidden, U9 GND hidden, U10 GND hidden, U11 GND hidden, U12 GND hidden, U13 GND hidden, U14 GND hidden, U15 VCCA1 hidden, V5 GND hidden, V6 GND hidden, V7 GND hidden, V8 GND hidden, V9 GND hidden, V10 VCCAUXA0 hidden, V11 VCCAUXA0, V12 GND hidden, V13 GND hidden, V14 GND hidden, V15 GND hidden, V16 GND hidden, V17 VCCAUXA1 hidden, V18 VCCAUXA1, V19 GND hidden, V20 GND hidden, W6 GND hidden, W7 GND hidden, W12 GND hidden, W15 GND hidden, W16 GND hidden, W19 GND hidden
part B pins: A6 PT4A, A7 PT18A, A8 PT18B, A9 PT60A, A10 PT63A, A11 PT63B, B6 PT4B, B8 PT15B, B9 PT58A, B10 PT60B, B11 PT65A, C6 PT11A, C7 PT11B, C8 PT15A, C9 PT54A, C10 PT58B, C11 PT65B, D6 PT6B, D7 PT9B, D8 PT13B, D9 PT20A, D10 PT56A, E6 PT6A, E7 PT9A, E8 PT13A, E9 PT20B, E10 PT56B, F9 VCCIO0 hidden, F10 VCCIO0
part C pins: A12 PT76A, A13 PT76B, A14 PT83A, A15 PT103A, A16 PT110A, A17 PT116A, A18 PT119A, A19 PT121A, B12 PT71A, B13 PT78A, B15 PT105A, B16 PT110B, B17 PT114A, B18 PT116B, B19 PT119B, B20 PT121B, C12 PT71B, C13 PT78B, C14 PT83B, C15 PT105B, C16 PT112A, C17 PT114B, D11 PT69A, D12 PT74A, D13 PT80A, D14 PT85A, D15 PT107A, D16 PT112B, E11 PT69B, E12 PT74B, E13 PT80B, E14 PT85B, E15 PT107B, F11 VCCIO1 hidden, F12 VCCIO1
part D pins: C18 PR11A, C20 PR35A, D17 PR11B, D18 PR14A, D19 PR35B, D20 PR35C, E16 PR11C, E17 PR14B, E18 PR14C, E19 PR35D, E20 PR38A, F16 PR11D, F17 PR17A, F18 PR14D, F19 PR38B, F20 PR38C, G16 PR17C, G18 PR17B, G19 PR41A, G20 PR38D, H14 VCCIO2 hidden, H15 VCCIO2, H16 PR17D, H17 PR20B, H18 PR20A, H20 PR41B, J15 VCCIO2 hidden, J16 PR20D, J17 PR20C, J18 PR41C, J19 PR44A, J20 PR44C, K16 PR29A, K17 PR29B, K18 PR41D, K19 PR44B, K20 PR44D
part E pins: L14 VCCIO3 hidden, L15 VCCIO3, L16 PR50A, L17 PR50B, L18 PR50C, L19 PR47C, L20 PR47A, M15 VCCIO3 hidden, M17 PR53B, M18 PR50D, M19 PR47D, M20 PR47B, N16 PR53A, N17 PR56A, N18 PR53C, N19 PR83A, N20 PR83B, P16 PR56B, P17 PR53D, P18 PR83D, P19 PR83C, P20 PR86A, R16 PR56C, R17 PR56D, R18 PR89B, R20 PR86B, T16 PR77A, T17 PR92D, T18 PR89D, T19 PR89A, T20 PR86C, U16 PR92C, U17 PR92B, U18 PR92A, U19 PR89C, U20 PR86D
part F pins: F1 PL47B, G1 PL47D, G2 PL47A, H1 PL53C, H2 PL47C, J1 PL53B, J3 PL50C, J4 PL50A, J5 PL50B, K1 PL53D, K2 PL53A, K3 PL50D, K4 PL56A, K5 PL56B, L1 PL89C, L2 PL86D, L3 PL86C, L4 PL56C, L5 PL56D, L6 VCCIO6 hidden, L7 VCCIO6, M1 PL89B, M3 PL86B, M4 PL83A, M5 PL77A, M6 VCCIO6 hidden, N1 PL89D, N2 PL89A, N3 PL86A, N4 PL83C, N5 PL83B, P1 PL92A, P2 PL92B, P3 PL92C, P4 PL92D, P5 PL83D
part G pins: A2 PL35A, A3 PL14C, A4 PL11A, A5 PL11B, B1 PL35B, B2 PL35C, B3 PL14D, B4 PL14B, B5 PL11C, C1 PL38A, C2 PL35D, C3 PL17C, C4 PL14A, C5 PL11D, D1 PL38B, D2 PL38C, D3 PL17D, D5 PL17B, E1 PL38D, E2 PL44D, E3 PL20B, E4 PL17A, E5 PL20C, F2 PL44C, F3 PL44B, F4 PL20A, F5 PL20D, G3 PL44A, G5 PL41B, H3 PL41D, H4 PL41A, H5 PL41C, H6 VCCIO7 hidden, H7 VCCIO7, J6 VCCIO7 hidden
part H pins: P9 VCCIO8 hidden, P10 VCCIO8, R1 PB4A, R2 PB15A, R3 PB15B, T1 PB4B, T2 PB13A, T3 PB18A, U1 PB6A, U2 PB13B, V1 PB6B, V2 PB11A, W1 PB9A, W2 PB11B, Y2 PB9B
part I pins: R4 CFG_2, R5 TDI, T4 CFG_1, T5 TCK, U3 CCLK, U4 CFG_0, U5 TMS, V3 ~{{INIT}}, V4 TDO, W3 ~{{PROGRAM}}, W10 RESERVED hidden, W11 RESERVED hidden, Y3 DONE
part J pins: W4 HDTXP0_D0CH0, W5 HDTXN0_D0CH0, W8 HDTXP0_D0CH1, W9 HDTXN0_D0CH1, Y5 HDRXP0_D0CH0, Y6 HDRXN0_D0CH0, Y7 HDRXP0_D0CH1, Y8 HDRXN0_D0CH1, Y11 REFCLKP_D0, Y12 REFCLKN_D0
part K pins: W13 HDTXP0_D1CH0, W14 HDTXN0_D1CH0, W17 HDTXP0_D1CH1, W18 HDTXN0_D1CH1, W20 REFCLKN_D1, Y14 HDRXP0_D1CH0, Y15 HDRXN0_D1CH0, Y16 HDRXP0_D1CH1, Y17 HDRXN0_D1CH1, Y19 REFCLKP_D1

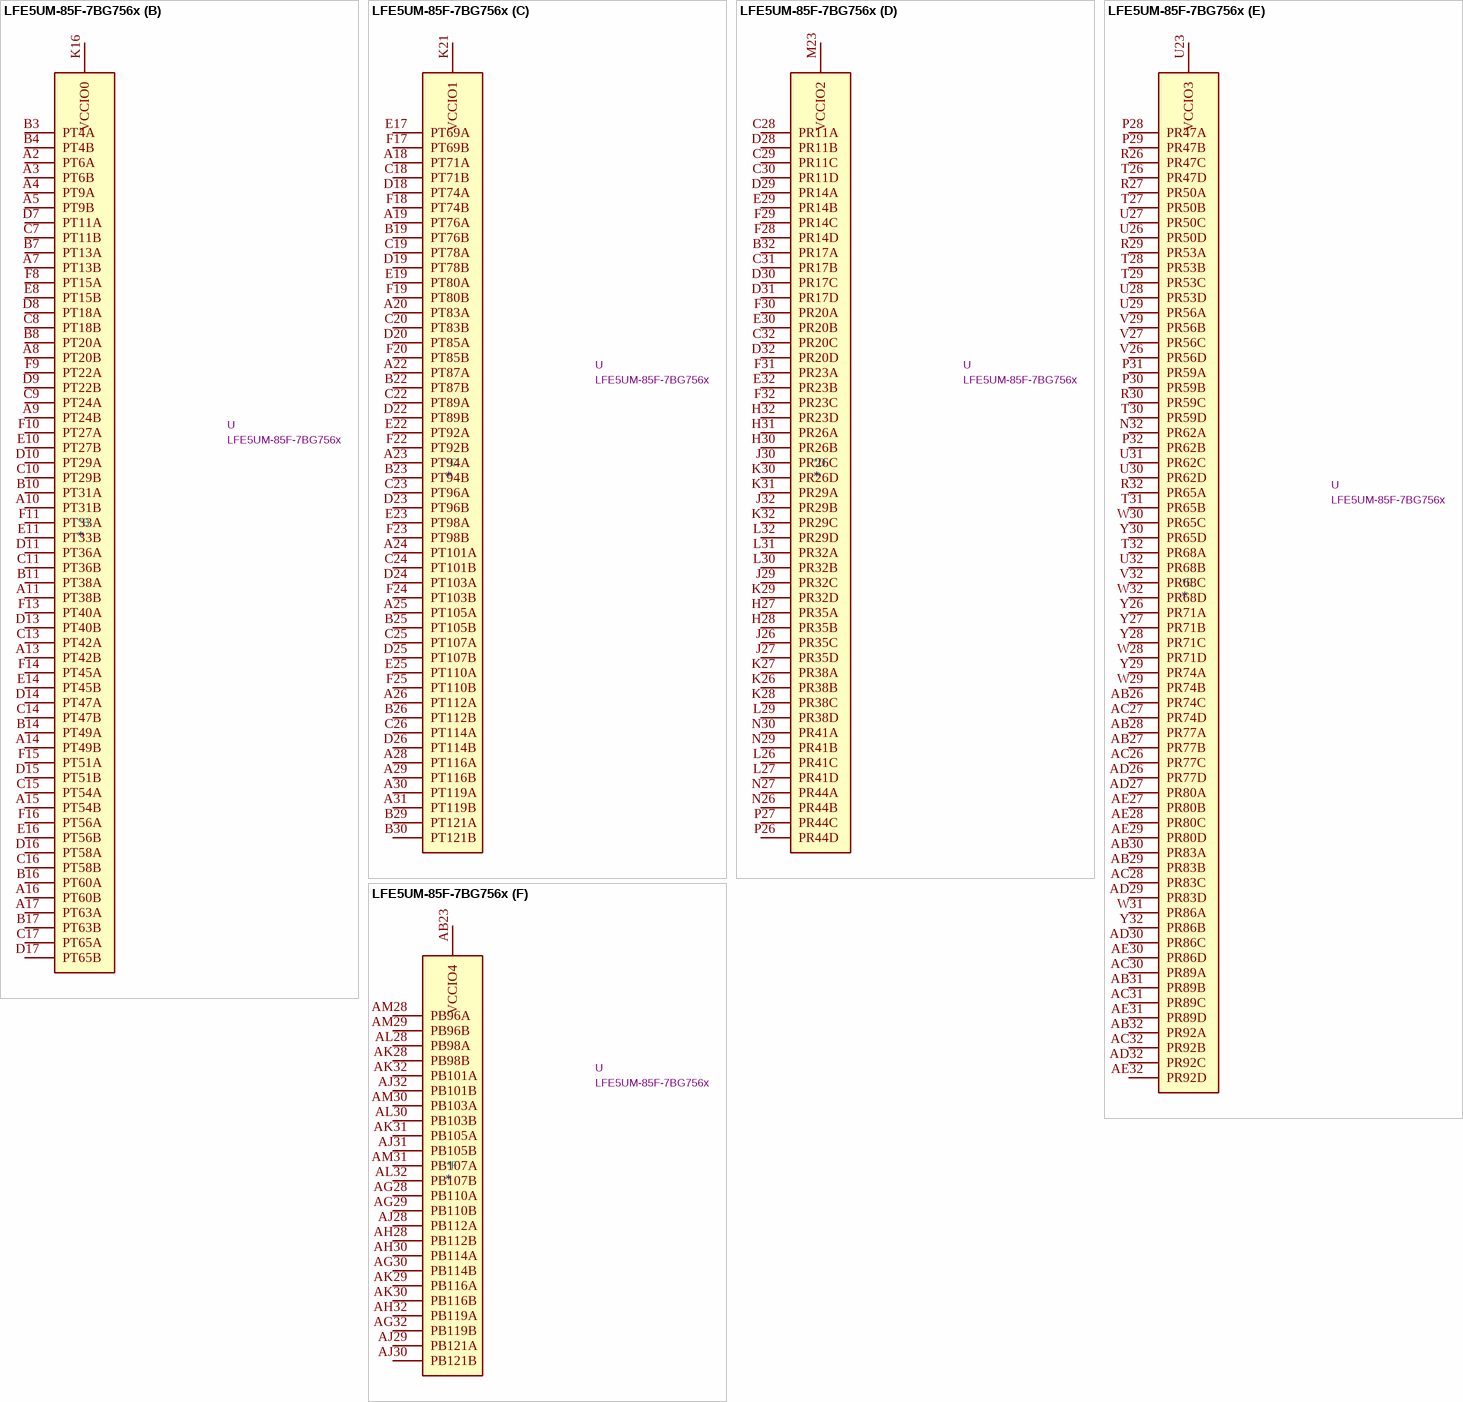
[diagram p18: symbol LFE5UM-85F-7BG756x]

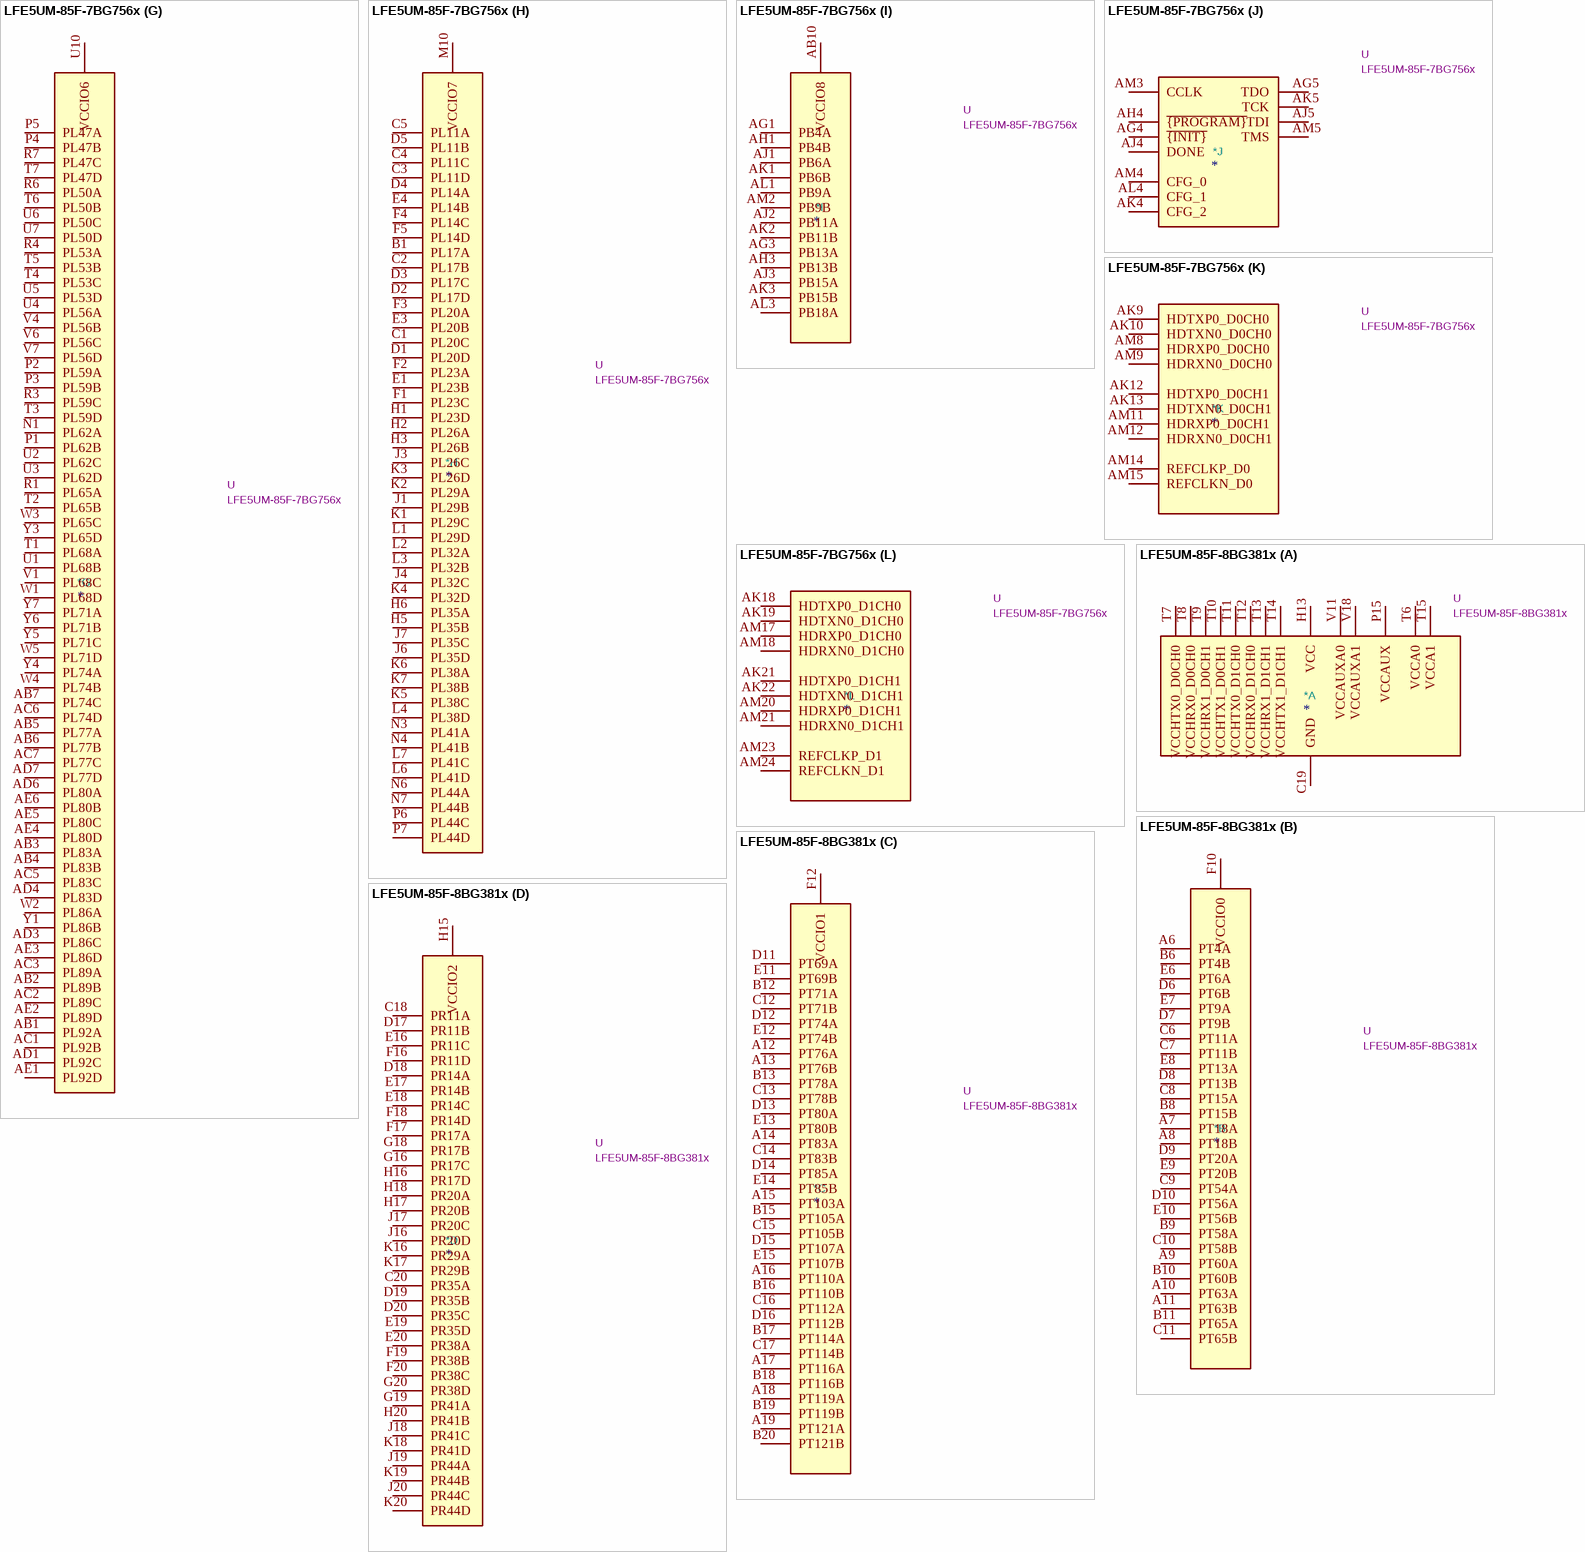
[diagram p19: symbols LFE5UM-85F-7BG756x to LFE5UM-85F-8BG381x]